# Altium integrated library s7cas_lib2023.intlib: 111 symbols (part 1 of 2)
Pins are listed as number, name and electrical type; pins without a type are passive.

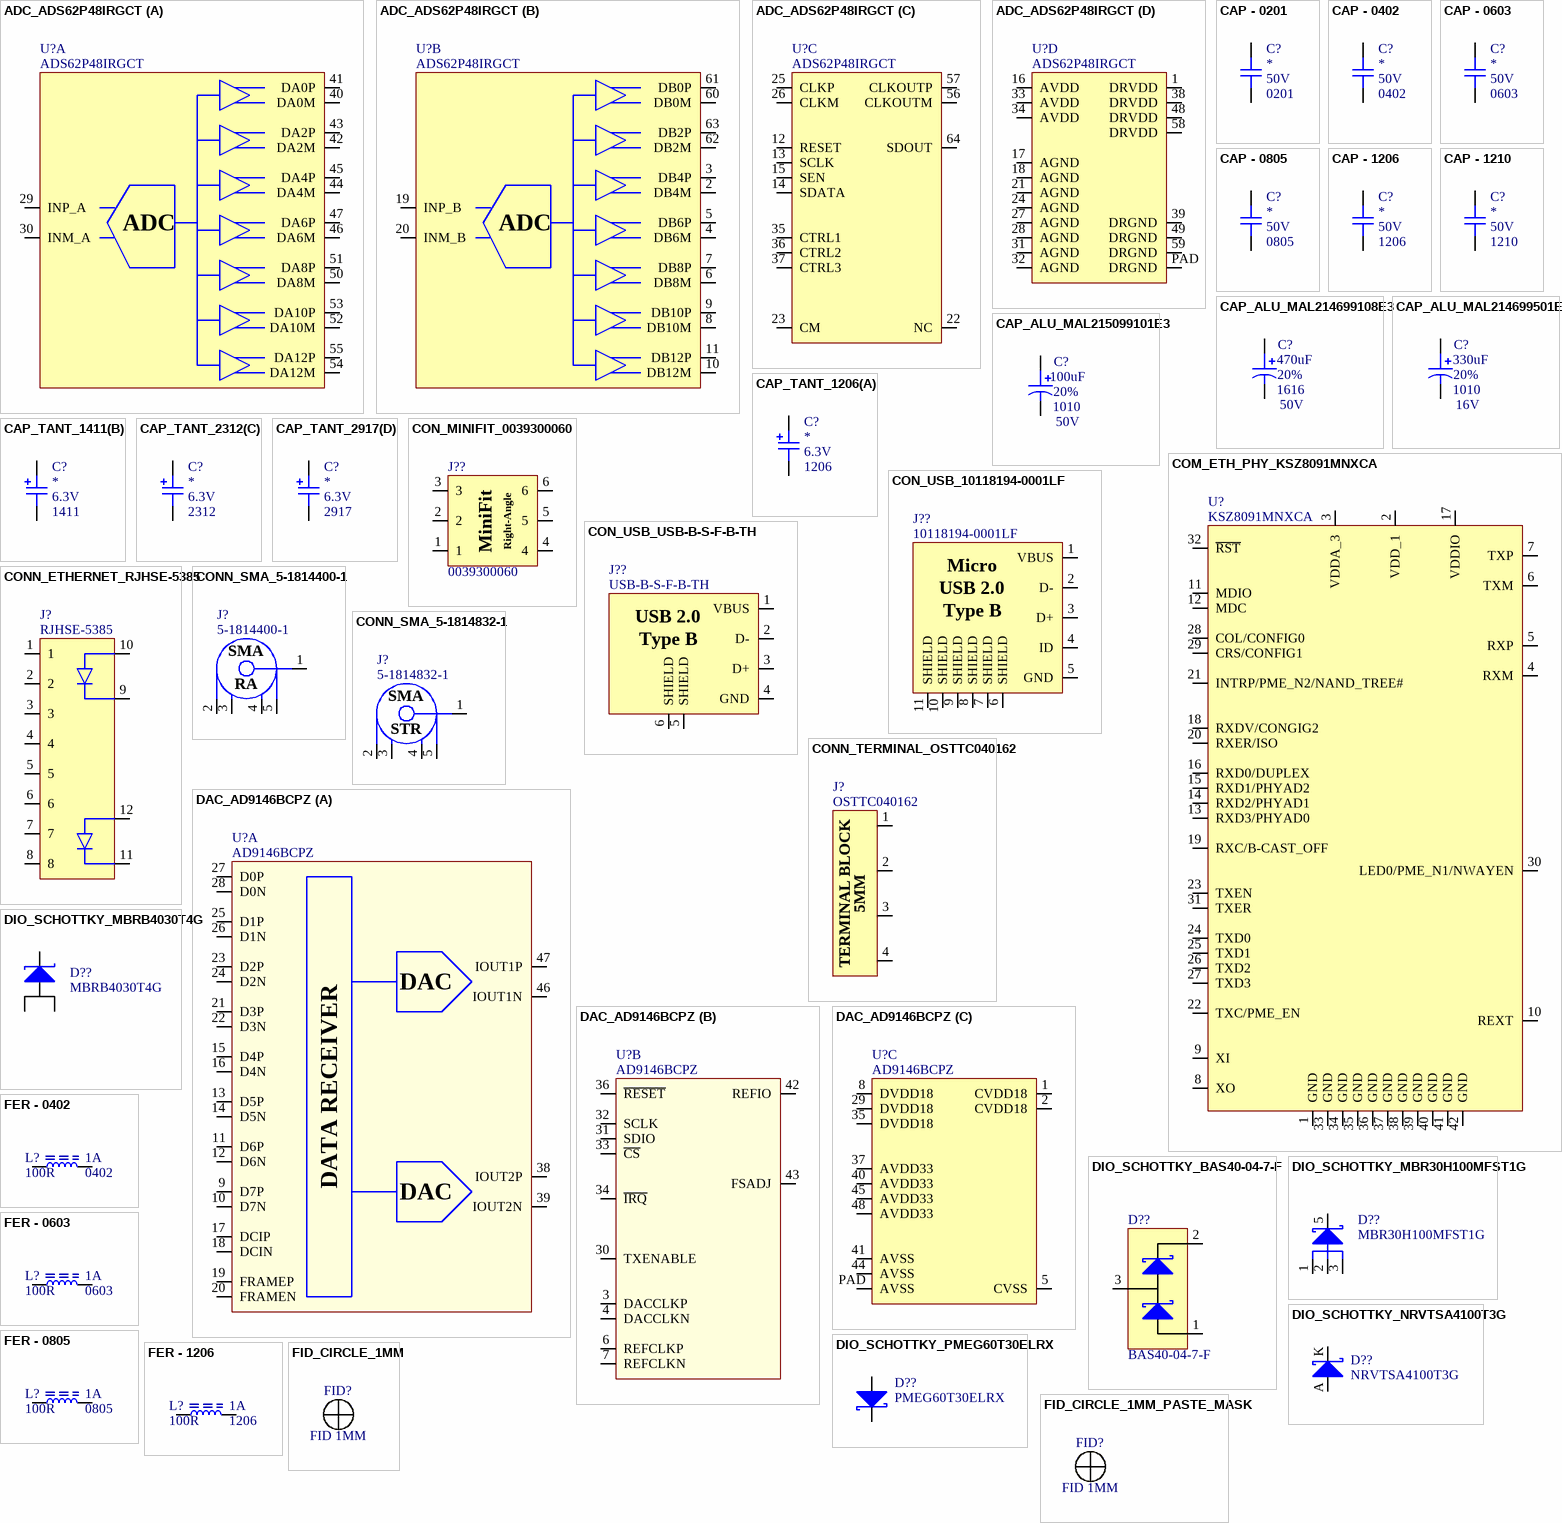
[diagram p0: symbols ADC_ADS62P48IRGCT to FID_CIRCLE_1MM_PASTE_MASK]

## ADC_ADS62P48IRGCT
designator U?, comment ADS62P48IRGCT
ADC - 14 BIT 210MSPS SUAL - VQFN-64; Voltage: 3.15 V ~ 3.6 V / 1.7 V ~ 1.9 V; Mfg: Texas Instruments; Precision: 14 Bit; Current: *; Power: *; Mfg Part Number: ADS62P48IRGCT; HelpURL: http://www.ti.com/lit/ds/symlink/ads62p48.pdf; CreatedBy: Jonathan Bouchard; Temperature: -40°C ~ 85°C; Value: *; Package: VQFN-64; Supplier 1: Digikey; Supplier Part Number 1: 296-24611-1-ND
footprint ADC_ADS62P48IRGCT (QFN, 64-Leads, Body 9,00x9,00mm, Pitch 0,50mm, Thermal Pad 7,40x7,40mm, IPC Medium Density)
part A pins: 29 INP_A, 30 INM_A, 40 DA0M, 41 DA0P, 42 DA2M, 43 DA2P, 44 DA4M, 45 DA4P, 46 DA6M, 47 DA6P, 50 DA8M, 51 DA8P, 52 DA10M, 53 DA10P, 54 DA12M, 55 DA12P
part B pins: 2 DB4M, 3 DB4P, 4 DB6M, 5 DB6P, 6 DB8M, 7 DB8P, 8 DB10M, 9 DB10P, 10 DB12M, 11 DB12P, 19 INP_B, 20 INM_B, 60 DB0M, 61 DB0P, 62 DB2M, 63 DB2P
part C pins: 12 RESET, 13 SCLK, 14 SDATA, 15 SEN, 22 NC, 23 CM, 25 CLKP, 26 CLKM, 35 CTRL1, 36 CTRL2, 37 CTRL3, 56 CLKOUTM, 57 CLKOUTP, 64 SDOUT
part D pins: 1 DRVDD, 16 AVDD, 17 AGND, 18 AGND, 21 AGND, 24 AGND, 27 AGND, 28 AGND, 31 AGND, 32 AGND, 33 AVDD, 34 AVDD, 38 DRVDD, 39 DRGND, 48 DRVDD, 49 DRGND, 58 DRVDD, 59 DRGND, PAD DRGND
part A text: ADC
part B text: ADC

## CAP - 0201
designator C?  Voltage: 50V  Package: 0201  (hidden comment: CAP - 0201)
Precision: 10%; Current: *; CreatedBy: Jonathan Bouchard; Power: *; Value: *
footprint CAP_0201
pins: 1, 2

## CAP - 0402
designator C?  Voltage: 50V  Package: 0402  (hidden comment: CAP - 0402)
Precision: 10%; Current: *; CreatedBy: Jonathan Bouchard; Power: *; Value: *
footprint CAP_0402
pins: 1, 2

## CAP - 0603
designator C?  Voltage: 50V  Package: 0603  (hidden comment: CAP - 0603)
Precision: 10%; Current: *; CreatedBy: Jonathan Bouchard; Power: *; Value: *
footprint CAP_0603
pins: 1, 2

## CAP - 0805
designator C?  Voltage: 50V  Package: 0805  (hidden comment: CAP - 0805)
Precision: 10%; Current: *; CreatedBy: Jonathan Bouchard; Power: *; Value: *
footprint CAP_0805
pins: 1, 2

## CAP - 1206
designator C?  Voltage: 50V  Package: 1206  (hidden comment: CAP - 1206)
Precision: 10%; Current: *; CreatedBy: Jonathan Bouchard; Power: *; Value: *
footprint CAP_1206
pins: 1, 2

## CAP - 1210
designator C?  Voltage: 50V  Package: 1210  (hidden comment: CAP - 1210)
Precision: 10%; Current: *; CreatedBy: Jonathan Bouchard; Power: *; Value: *
footprint CAP_1210
pins: 1, 2

## CAP_ALU_MAL214699108E3
designator C?, comment value 470uF  Voltage: 50V  Package: 1616  Precision: 20%  (hidden comment: MAL214699108E3)
CAP - ALU 470uF 20% 50V - 1616; Current: 1.3A; Mfg: Vishay Dale; Mfg Part Number: MAL214699108E3; HelpURL: http://www.vishay.com/docs/28403/146cti.pdf; CreatedBy: Jonathan Bouchard; Temperature: -55°C to 125°C; Power: *; Supplier 1: Digikey; Supplier Part Number 1: 4442PHCT-ND
footprint CAP_ALU_1616_vishay
pins: 1, 2

## CAP_ALU_MAL214699501E3
designator C?, comment value 330uF  Voltage: 16V  Package: 1010  Precision: 20%  (hidden comment: MAL214699501E3)
CAP - ALU 330uF 20% 16V - 1010; Current: 750mA; Mfg: Vishay Dale; Mfg Part Number: MAL214699501E3; HelpURL: http://www.vishay.com/docs/28403/146cti.pdf; CreatedBy: Jonathan Bouchard; Temperature: -55°C to 125°C; Power: *; Supplier 1: Digikey; Supplier Part Number 1: 4405PHCT-ND
footprint CAP_ALU_1010_vishay
pins: 1, 2

## CAP_ALU_MAL215099101E3
designator C?, comment value 100uF  Voltage: 50V  Package: 1010  Precision: 20%  (hidden comment: MAL215099101E3)
CAP - ALU 100uF 20% 50V - 1010; Current: 490mA; Mfg: Vishay Dale; Mfg Part Number: MAL215099101E3; HelpURL: http://www.vishay.com/docs/28395/150crz.pdf; CreatedBy: Jonathan Bouchard; Temperature: -55°C to 125°C; Power: *; Supplier 1: Digikey; Supplier Part Number 1: 4399PHDKR-ND
footprint CAP_ALU_1010_vishay
pins: 1, 2

## CAP_TANT_1206(A)
designator C?, comment Voltage: 6.3V  Package: 1206  (hidden comment: CAP - TANTALUM - CASE A)
CAP - TANTALUM - 1206; Precision: 10%; Current: *; CreatedBy: Jonathan Bouchard; Power: *; Value: *
footprint CAP_TAN_1206(A)
pins: 1, 2

## CAP_TANT_1411(B)
designator C?, comment Voltage: 6.3V  Package: 1411  (hidden comment: CAP - TANTALUM - CASE B)
CAP - TANTALUM - 1411; Precision: 10%; Current: *; CreatedBy: Jonathan Bouchard; Power: *; Value: *
footprint CAP_TAN_1411(B)
pins: 1, 2

## CAP_TANT_2312(C)
designator C?, comment Voltage: 6.3V  Package: 2312  (hidden comment: CAP - TANTALUM - CASE C)
CAP - TANTALUM - 2312; Precision: 10%; Current: *; CreatedBy: Jonathan Bouchard; Power: *; Value: *
footprint CAP_TAN_2312(C)
pins: 1, 2

## CAP_TANT_2917(D)
designator C?, comment Voltage: 6.3V  Package: 2917  (hidden comment: CAP - TANTALUM - CASE D)
CAP - TANTALUM - 2917; Precision: 10%; Current: *; CreatedBy: Jonathan Bouchard; Power: *; Value: *
footprint CAP_TAN_2917(D)
pins: 1, 2

## COM_ETH_PHY_KSZ8091MNXCA
designator U?, comment KSZ8091MNXCA
COM - ETHERNET PHY 10/100 - QFN-32; Voltage: 1.8V, 2.5V, 3.3V; Mfg: Micrel; Current: *; Power: *; Mfg Part Number: KSZ8091MNXCA; HelpURL: http://ww1.microchip.com/downloads/en/DeviceDoc/00002275A.pdf; CreatedBy: Jonathan Bouchard; Temperature: 0°C ~ 70°C; Value: *; Precision: *; Package: QFN-32; Supplier 1: Digikey; Supplier Part Number 1: 576-4356-ND
footprint COM_ETH_PHY_KSZ8091MNXCA
pins: 1 GND, 2 VDD_1 (power), 3 VDDA_3 (power), 4 RXM, 5 RXP, 6 TXM, 7 TXP, 8 XO, 9 XI, 10 REXT, 11 MDIO, 12 MDC, 13 RXD3/PHYAD0, 14 RXD2/PHYAD1, 15 RXD1/PHYAD2, 16 RXD0/DUPLEX, 17 VDDIO (power), 18 RXDV/CONGIG2, 19 RXC/B-CAST_OFF, 20 RXER/ISO, 21 INTRP/PME_N2/NAND_TREE#, 22 TXC/PME_EN, 23 TXEN, 24 TXD0, 25 TXD1, 26 TXD2, 27 TXD3, 28 COL/CONFIG0, 29 CRS/CONFIG1, 30 LED0/PME_N1/NWAYEN, 31 TXER, 32 ~{RST}, 33 GND, 34 GND, 35 GND, 36 GND, 37 GND, 38 GND, 39 GND, 40 GND, 41 GND, 42 GND

## CON_MINIFIT_0039300060
designator J??, comment 0039300060
CON - Mini-Fit Through Hole, Right Angle 6 position; Manufacturer #1: Molex; Current Rating: 8A; GRAMS Lib Spec: 2.8; Magnetic Material: Unknown; Polarized: Yes; Voltage Rating: 600V; Assembly Type: TH; CreatedBy/Date: Joel Lemay 2018-06-21; HelpURL: https://www.molex.com/pdm_docs/sd/039300060_sd.pdf; Manufacturer #2: *; Package: TH; Part Number #1: 0039300060; Part Number #2: *; Power Max: *; Supplier 1: Digi-Key; Supplier Part Number 1: WM21353-ND; Temperature: - 40°C to + 80°C; Tolerance: *; Value: *; VerifiedBy: Caroline Paulin - 10 sept 2018; Cryo: UNKNOWN
footprint CON_MINIFIT_0039300060
pins: 1, 2, 3, 4, 5, 6
text: MiniFit; Right-Angle

## CON_USB_10118194-0001LF
designator J??, comment 10118194-0001LF
CON - USB MICRO B RECPT SMT R/A - 4PIN; Manufacturer #1: Amphenol FCI; Value: USB - Micro B; Voltage Rating: 100VAC; Current Rating: 1.8A; GRAMS Lib Spec: 2.8; Magnetic Material: YES; Cryo: UNKNOWN; Tolerance: *; Power Max: *; HelpURL: https://cdn.amphenol-icc.com/media/wysiwyg/files/drawing/10118194.pdf; CreatedBy/Date: Arnaud Samson - 09/07/18; VerifiedBy: Jonathan Bouchard 2018-07-12; Temperature: -30°C ~ 80°C; Package: 5-SMD; Manufacturer #2: *; Note: *; Assembly Type: SMD; Part Number #2: *; Part Number #1: 10118194-0001LF; Polarized: YES; Supplier 1: Digi-Key; Supplier Part Number 1: 609-4618-1-ND
footprint CON_USB_10118194-0001LF (CONN USB MICRO B RECPT SMT R/A)
pins: 1 VBUS, 2 D-, 3 D+, 4 ID, 5 GND, 6 SHIELD, 7 SHIELD, 8 SHIELD, 9 SHIELD, 10 SHIELD, 11 SHIELD
text: Micro; USB 2.0; Type B

## CON_USB_USB-B-S-F-B-TH
designator J??, comment USB-B-S-F-B-TH
CON - USB B RECPT TH R/A - 4-TH; Manufacturer #1: Samtec Inc.; Value: USB B; Voltage Rating: 30VAC; GRAMS Lib Spec: 2.8c; Magnetic Material: UNKNOWN; Polarized: YES; Tolerance: *; Current Rating: *; Power Max: *; HelpURL: http://suddendocs.samtec.com/catalog_english/usb_b.pdf; CreatedBy/Date: Jonathan Bouchard 2020-03-24; VerifiedBy: C.Paulin - 22/04/2020; Temperature: -50°C ~ 85°C; Package: 4-TH; Manufacturer #2: *; Note: *; Assembly Type: TH; Part Number #2: *; Part Number #1: USB-B-S-F-B-TH; Supplier 1: Digi-Key; Supplier Part Number 1: SAM10867-ND; Cryo: UNKNOWN
footprint CON_USB_USB-B-S-F-B-TH (Samtec USB B)
pins: 1 VBUS, 2 D-, 3 D+, 4 GND, 5 SHIELD, 6 SHIELD
text: USB 2.0; Type B

## CONN_ETHERNET_RJHSE-5385
designator J?, comment RJHSE-5385
CONN - MOD JACK RJ45 R/A ETHERNET - TH; Mfg: Amphenol; Voltage: *; Current: *; Power: *; Mfg Part Number: RJHSE-5385; HelpURL: https://www.amphenolcanada.com/ProductSearch/drawings/AC/RJHSE538X.pdf; CreatedBy: Jonathan Bouchard; Temperature: -55°C ~ 85°C; Value: *; Precision: *; Package: TH-12; Supplier 1: Digikey; Supplier Part Number 1: RJHSE-5385-ND
footprint CONN_ETHERNET_RJHSE-5385 (Ethernet connector with LEDs)
pins: 1, 2, 3, 4, 5, 6, 7, 8, 9 LED1_K, 10 LED1_A, 11 LED2_K, 12 LED2_A

## CONN_SMA_5-1814400-1
designator J?, comment 5-1814400-1
CONN -  SMA JACK R/A 50 OHM - TH; Mfg: TE Connectivity AMP Connectors; Voltage: *; Current: *; Power: *; Mfg Part Number: 5-1814400-1; HelpURL: http://www.te.com/commerce/DocumentDelivery/DDEController?Action=srchrtrv&DocNm=1814400&DocType=Customer+Drawing&DocLang=English; CreatedBy: Jonathan Bouchard; Temperature: -55°C ~ 85°C; Value: *; Precision: *; Package: TH-5; Supplier 1: Digikey; Supplier Part Number 1: A97593-ND
footprint CONN_SMA_5-1814400-1 (SMA Right Angle Jack, 14.8x6.35x9.6mm)
pins: 1, 2, 3, 4, 5
text: SMA; RA

## CONN_SMA_5-1814832-1
designator J?, comment 5-1814832-1
CONN -  SMA JACK STR 50 OHM - TH; Mfg: TE Connectivity AMP Connectors; Voltage: *; Current: *; Power: *; Mfg Part Number: 5-1814832-1; HelpURL: http://www.te.com/commerce/DocumentDelivery/DDEController?Action=srchrtrv&DocNm=1814832&DocType=Customer+Drawing&DocLang=English; CreatedBy: Jonathan Bouchard; Temperature: -65°C ~ 165°C; Value: *; Precision: *; Package: TH-5; Supplier 1: Digikey; Supplier Part Number 1: A97594-ND
footprint CONN_SMA_5-1814832-1 (SMA Straight Jack, 6.35x6.35x9.5mm)
pins: 1, 2, 3, 4, 5
text: SMA; STR

## CONN_TERMINAL_OSTTC040162
designator J?, comment OSTTC040162
CONN -  TERMINAL BLOCK 4POS 5MM - TH; Mfg: On Shore Technology Inc.; Voltage: *; Current: *; Power: *; Mfg Part Number: OSTTC040162; HelpURL: http://www.on-shore.com/wp-content/uploads/2015/09/osttcxx0162.pdf; CreatedBy: Jonathan Bouchard; Temperature: -30°C ~ 105°C; Value: *; Precision: *; Package: TH-4; Supplier 1: Digikey; Supplier Part Number 1: ED2602-ND
footprint CONN_TERMINAL_OSTTA040161 (4-pins terminal block)
pins: 1, 2, 3, 4
text: TERMINAL BLOCK; 5MM

## DAC_AD9146BCPZ
designator U?, comment AD9146BCPZ
DAC - 16BIT SRL HIGH SPEED - QFN-48; Voltage: 3.13 V ~ 3.47 V / 1.71 V ~ 1.89 V; Mfg: Analog Devices Inc.; Current: *; Power: *; Mfg Part Number: AD9146BCPZ; HelpURL: http://www.analog.com/media/en/technical-documentation/data-sheets/AD9146.PDF; CreatedBy: Jonathan Bouchard; Temperature: -40°C ~ 85°C; Value: *; Precision: 16 Bit; Package: QFN-48; Supplier 1: Digikey; Supplier Part Number 1: AD9146BCPZ-ND
footprint DAC_AD9146BCPZ (QFN, 48-Leads, Body 7x7mm, Pitch 0.5mm, Thermal Pad 5.6x5.6mm, IPC Medium Density)
part A pins: 9 D7P "Data Bit 7 (MSB), Positive.", 10 D7N "Data Bit 7 (MSB), Negative.", 11 D6P "Data Bit 6, Positive.", 12 D6N "Data Bit 6, Negative.", 13 D5P "Data Bit 5, Positive.", 14 D5N "Data Bit 5, Negative.", 15 D4P "Data Bit 4, Positive.", 16 D4N "Data Bit 4, Negative.", 17 DCIP "Data Clock Input, Positive.", 18 DCIN "Data Clock Input, Negative.", 19 FRAMEP "Frame Input, Positive.", 20 FRAMEN "Frame Input, Negative.", 21 D3P "Data Bit 3, Positive.", 22 D3N "Data Bit 3, Negative.", 23 D2P "Data Bit 2, Positive.", 24 D2N "Data Bit 2, Negative.", 25 D1P "Data Bit 1, Positive.", 26 D1N "Data Bit 1, Negative.", 27 D0P "Data Bit 0 (LSB), Positive.", 28 D0N "Data Bit 0 (LSB), Negative.", 38 IOUT2P "Q DAC Positive Current Output.", 39 IOUT2N "Q DAC Negative Current Output.", 46 IOUT1N "I DAC Negative Current Output.", 47 IOUT1P "I DAC Positive Current Output."
part B pins: 3 DACCLKP "DAC Clock Input, Positive.", 4 DACCLKN "DAC Clock Input, Negative.", 6 REFCLKP "PLL Reference Clock Input, Positive. This pin has a secondary function as a synchronization input.", 7 REFCLKN "PLL Reference Clock Input, Negative. This pin has a secondary function as a synchronization input.", 30 TXENABLE "Active High Transmit Path Enable (CMOS). A low level on this pin clamps the DAC outputs to midscale.", 31 SDIO "Serial Port Data Input/Output (CMOS).", 32 SCLK "Serial Port Clock Input (CMOS).", 33 ~{CS} "Serial Port Chip Select, Active Low (CMOS).", 34 ~{IRQ} "Interrupt Request. Open-drain, active low output. Pull this pin high external to the device.", 36 ~{RESET} "Reset, Active Low (CMOS).", 42 REFIO "1.2 V Band Gap Voltage Reference Output. Should be decoupled to AVSS with a 0.1 uF capacitor.", 43 FSADJ "Full-Scale Current Output Adjust. Place a 10 kO resistor from this pin to AVSS."
part C pins: 1 CVDD18 "1.8 V Clock Supply. Supplies clock receivers, clock distribution, and PLL circuitry.", 2 CVDD18 "1.8 V Clock Supply. Supplies clock receivers, clock distribution, and PLL circuitry.", 5 CVSS "Clock Supply Common.", 8 DVDD18 "1.8 V Digital Supply. Supplies power to digital core and digital data ports.", 29 DVDD18 "1.8 V Digital Supply. Supplies power to digital core and digital data ports.", 35 DVDD18 "1.8 V Digital Supply. Supplies power to digital core and digital data ports.", 37 AVDD33 "3.3 V Analog Supply.", 40 AVDD33 "3.3 V Analog Supply.", 41 AVSS "Analog Supply Common.", 44 AVSS "Analog Supply Common.", 45 AVDD33 "3.3 V Analog Supply.", 48 AVDD33 "3.3 V Analog Supply.", PAD AVSS "The exposed pad (EPAD) must be soldered to the ground plane (AVSS). The EPAD provides an electrical,thermal, and mechanical connection to the board."
part A text: DAC; DATA RECEIVER

## DIO_SCHOTTKY_BAS40-04-7-F
designator D??, comment BAS40-04-7-F
DIO - Schottky Array 1 Pair Series Connection - SOT-23-3; Manufacturer #1: Diodes Incorporated; Voltage Rating: 40V dc reverse; Current Rating: 200mA; GRAMS Lib Spec: 2.8; Magnetic Material: Unknown; Polarized: Yes; Value: -; Tolerance: -; Power Max: -; HelpURL: https://www.diodes.com/assets/Datasheets/ds11006.pdf; CreatedBy/Date: Danae D-F 15 août 2019; VerifiedBy: C.Paulin - 16/08/2019; Temperature: -55°C ~ 125°C; Package: SOT-23-3; Manufacturer #2: -; Assembly Type: SMD; Part Number #2: -; Part Number #1: BAS40-04-7-F; Supplier 1: Digi-Key; Supplier Part Number 1: BAS40-04FDITR-ND; Cryo: UNKNOWN
footprint DIO_SCHOTTKY_BAS40-04-7-F
pins: 1 A, 2 K, 3 AK

## DIO_SCHOTTKY_MBR30H100MFST1G
designator D??, comment MBR30H100MFST1G
DIO - SCHOTTKY 100V 30A - 5DFN; Manufacturer #1: ON Semiconductor; GRAMS Lib Spec: 2.8; Magnetic Material: Unknown; Polarized: Yes; Assembly Type: SMD; CreatedBy/Date: Joel Lemay 2019-10-17; Current Rating: 30A; HelpURL: http://www.onsemi.com/pub/Collateral/MBR30H100MFS-D.PDF; Manufacturer #2: *; Package: 5DFN; Part Number #1: MBR30H100MFST1G; Part Number #2: *; Power Max: *; Supplier 1: Digi-Key; Supplier Part Number 1: MBR30H100MFST1GOSCT-ND; Temperature: -55°C ~ 175°C; Tolerance: *; VerifiedBy: C.Paulin - 2019-11-18; Voltage Rating: 100V; Cryo: UNKNOWN
footprint DIO_SCHOTTKY_MBR30H100MFST1G
pins: 1 A, 2 A, 3 A, 4 NC hidden, 5 K

## DIO_SCHOTTKY_MBRB4030T4G
designator D??, comment MBRB4030T4G
DIO - 30V MAX 40 A - TO-263-3; Manufacturer #1: ON Semiconductor; Value: Vf = 550mV @ 40A; Current Rating: 40A; GRAMS Lib Spec: 2.8; Magnetic Material: NO; Polarized: Yes; Cryo: UNKNOWN; Tolerance: *; Voltage Rating: 30V; Power Max: *; HelpURL: http://www.onsemi.com/pub/Collateral/MBRB4030-D.PDF; CreatedBy/Date: Arnaud Samson - 06/07/18; VerifiedBy: Jonathan Bouchard 2018-07-12; Temperature: -65°C ~ 175°C; Package: D2PAK; Manufacturer #2: *; Note: *; Assembly Type: SMD; Part Number #2: *; Part Number #1: MBRB4030T4G; Supplier 1: Digi-Key; Supplier Part Number 1: MBRB4030T4GOSCT-ND
footprint DIO_SCHOTTKY_MBRB4030T4G (TO-263-3, D²Pak (2 Leads + Tab), TO-263AB)
pins: 1 A, 3, 4

## DIO_SCHOTTKY_NRVTSA4100T3G
designator D??, comment NRVTSA4100T3G
DIO -  SCHOTTKY 100V 4A - DO-214AC; Manufacturer #1: ON Semiconductor; Value: Vf = 660mV @ 4A; GRAMS Lib Spec: 2.8; Magnetic Material: UNKNOWN; Polarized: YES; Tolerance: *; Voltage Rating: 100V; Current Rating: 4A; Power Max: *; HelpURL: https://www.onsemi.com/pub/Collateral/NTSA4100-D.PDF; CreatedBy/Date: Jonathan Bouchard 2019-03-22; VerifiedBy: Nicolas V. (2019-05-01); Temperature: -55°C ~ 150°C; Package: DO-214AC; Manufacturer #2: *; Note: *; Assembly Type: SMD; Part Number #2: *; Part Number #1: NRVTSA4100T3G; Supplier 1: Digi-Key; Supplier Part Number 1: NRVTSA4100T3GOSCT-ND; Cryo: UNKNOWN
footprint DIO_SCHOTTKY_NRVTSA4100T3G (Molded Diode, 2-Leads, Body 4,31x2,61mm, IPC Medium Density)
pins: A, K

## DIO_SCHOTTKY_PMEG60T30ELRX
designator D??, comment PMEG60T30ELRX
DIO -  SCHOTTKY 60V 3A - SOD-123W; Manufacturer #1: Nexperia USA Inc.; GRAMS Lib Spec: 2.8c; Magnetic Material: UNKNOWN; Polarized: YES; Value: 620mV @ 3A; Assembly Type: SMD; CreatedBy/Date: Jonathan Bouchard 2020-03-23; Current Rating: 3A; HelpURL: https://assets.nexperia.com/documents/data-sheet/PMEG60T30ELR.pdf; Manufacturer #2: *; Note: *; Package: SOD-123W; Part Number #1: PMEG60T30ELRX; Part Number #2: *; Power Max: *; Supplier 1: Digi-Key; Supplier Part Number 1: 1727-7806-1-ND; Temperature: 175°C (Max); Tolerance: *; VerifiedBy: C.Paulin - 22/04/2020; Voltage Rating: 60V; Cryo: UNKNOWN
footprint DIO_SCHOTTKY_PMEG60T30ELRX
pins: A, K

## FER - 0402
designator L?  value 100R  Current: 1A  Package: 0402  (hidden comment: FER - 0402)
Voltage: *; CreatedBy: Jonathan Bouchard; Power: *; Precision: *
footprint FER_0402
pins: 1, 2

## FER - 0603
designator L?  value 100R  Current: 1A  Package: 0603  (hidden comment: FER - 0603)
Voltage: *; CreatedBy: Jonathan Bouchard; Power: *; Precision: *
footprint FER_0603
pins: 1, 2

## FER - 0805
designator L?  value 100R  Current: 1A  Package: 0805  (hidden comment: FER - 0805)
Voltage: *; CreatedBy: Jonathan Bouchard; Power: *; Precision: *
footprint FER_0805
pins: 1, 2

## FER - 1206
designator L?  value 100R  Current: 1A  Package: 1206  (hidden comment: FER - 1206)
Voltage: *; CreatedBy: Jonathan Bouchard; Power: *; Precision: *
footprint FER_1206
pins: 1, 2

## FID_CIRCLE_1MM
designator FID?, comment FID 1MM
FID - FIDUCIAL 1MM CIRCLE DOUBLE-SIDED - 1MM; GRAMS Lib Spec: 2.8; Magnetic Material: NO; Cryo: UNKNOWN; Value: *; Tolerance: *; Voltage Rating: *; Current Rating: *; Power Max: *; HelpURL: https://www.pcb-3d.com/wordpress/wp-content/uploads/ipc-sm-782a_amendment_1_and_2.pdf; CreatedBy/Date: Jonathan Bouchard 2018-07-23; VerifiedBy: Caroline Paulin - 25 juillet 2018; Temperature: *; Package: 1MM CIRCLE; Manufacturer #1: *; Manufacturer #2: *; Note: *; Assembly Type: NONE; Part Number #2: *; Part Number #1: *; Polarized: *; Supplier 1: *; Supplier Part Number 1: *
footprint FID_CIRCLE_1MM
pins: 1 hidden, 2 hidden

## FID_CIRCLE_1MM_PASTE_MASK
designator FID?, comment FID 1MM
FID - FIDUCIAL 1MM CIRCLE DOUBLE-SIDED - 1MM; GRAMS Lib Spec: 2.8; Magnetic Material: NO; Cryo: UNKNOWN; Value: *; Tolerance: *; Voltage Rating: *; Current Rating: *; Power Max: *; HelpURL: https://www.pcb-3d.com/wordpress/wp-content/uploads/ipc-sm-782a_amendment_1_and_2.pdf; CreatedBy/Date: Jonathan Bouchard 2018-07-23; VerifiedBy: Caroline Paulin - 25 juillet 2018; Temperature: *; Package: 1MM CIRCLE; Manufacturer #1: *; Manufacturer #2: *; Note: *; Assembly Type: NONE; Part Number #2: *; Part Number #1: *; Polarized: *; Supplier 1: *; Supplier Part Number 1: *
footprint FID_CIRCLE_1MM - PASTE_MASK
pins: 1 hidden, 2 hidden

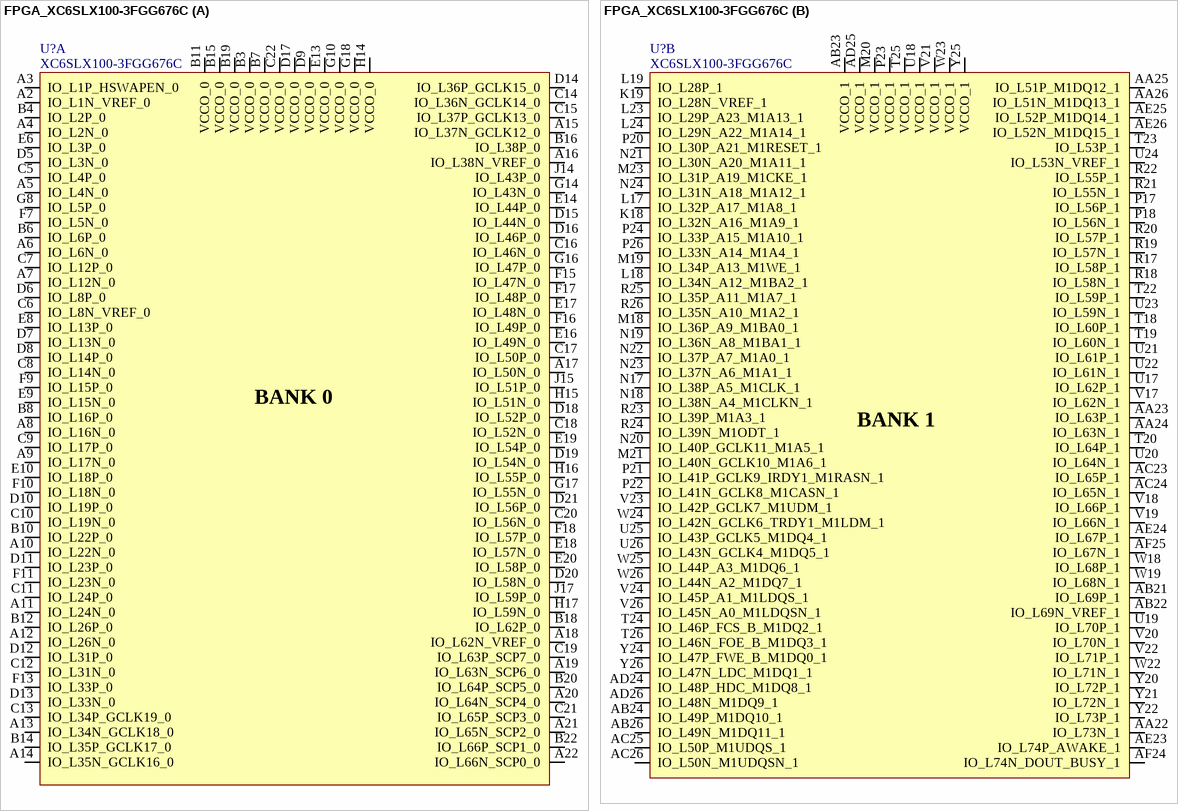
[diagram p1: symbol FPGA_XC6SLX100-3FGG676C]

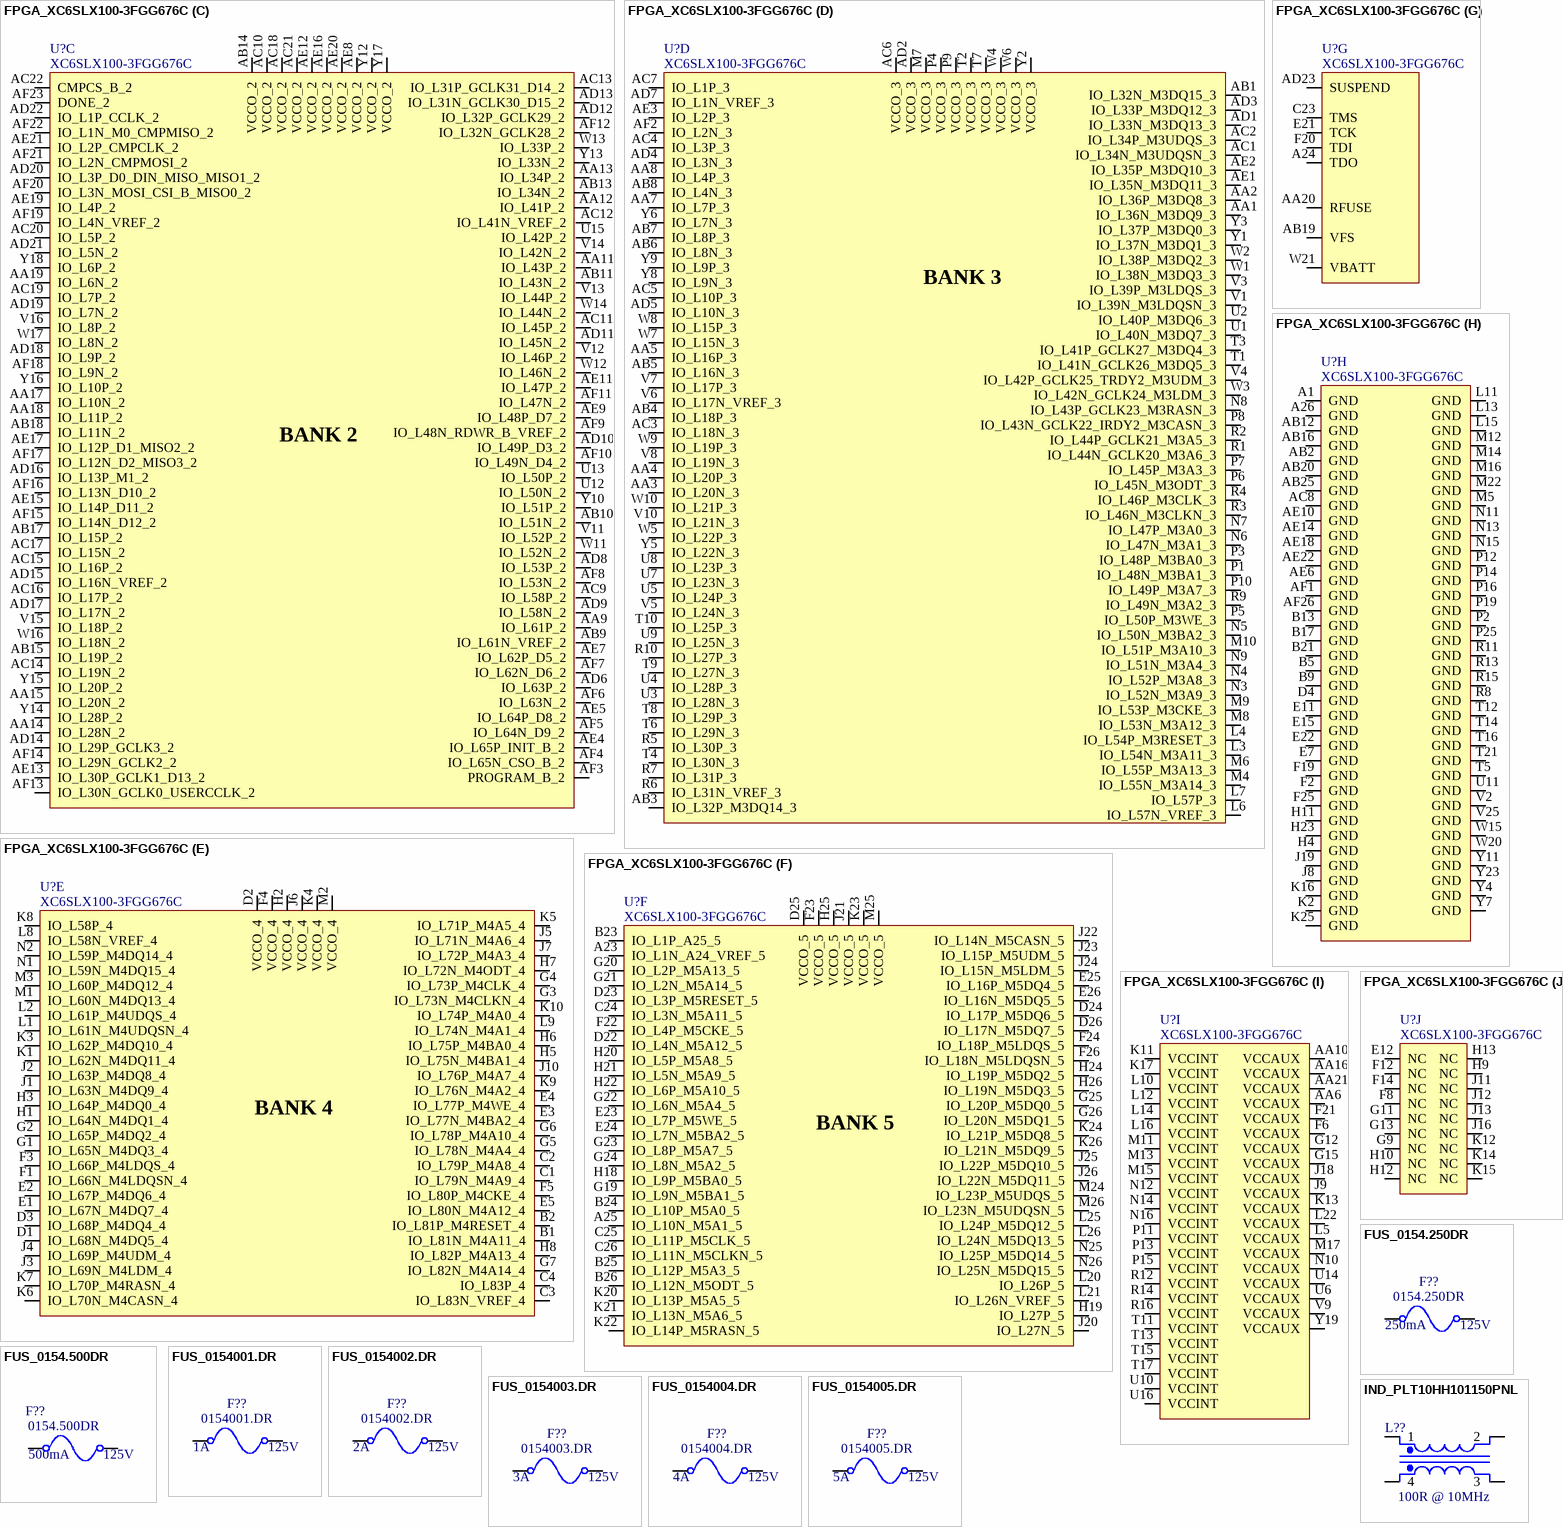
[diagram p2: symbols FPGA_XC6SLX100-3FGG676C to IND_PLT10HH101150PNL]

## FPGA_XC6SLX100-3FGG676C
designator U?, comment XC6SLX100-3FGG676C
FPGA - XILINX SPARTAN 6 480 I/O - BGA-676; Voltage: 1.14 V ~ 1.26 V; Current: *; Power: *; Mfg: Xilinx; Mfg Part Number: XC6SLX100-3FGG676C; HelpURL: https://www.xilinx.com/support/documentation/data_sheets/ds162.pdf; CreatedBy: Jonathan Bouchard; Temperature: 0°C ~ 85°C (TJ); Value: *; Precision: *; Package: BGA-676; Supplier 1: Digikey; Supplier Part Number 1: 122-1760-ND
footprint FPGA_XILINX_FGG676
part A pins: A2 IO_L1N_VREF_0, A3 IO_L1P_HSWAPEN_0, A4 IO_L2N_0, A5 IO_L4N_0, A6 IO_L6N_0, A7 IO_L12N_0, A8 IO_L16N_0, A9 IO_L17N_0, A10 IO_L22N_0, A11 IO_L24N_0, A12 IO_L26N_0, A13 IO_L34N_GCLK18_0, A14 IO_L35N_GCLK16_0, A15 IO_L37N_GCLK12_0, A16 IO_L38N_VREF_0, A17 IO_L50N_0, A18 IO_L62N_VREF_0, A19 IO_L63N_SCP6_0, A20 IO_L64N_SCP4_0, A21 IO_L65N_SCP2_0, A22 IO_L66N_SCP0_0, B3 VCCO_0, B4 IO_L2P_0, B6 IO_L6P_0, B7 VCCO_0, B8 IO_L16P_0, B10 IO_L22P_0, B11 VCCO_0, B12 IO_L26P_0, B14 IO_L35P_GCLK17_0, B15 VCCO_0, B16 IO_L38P_0, B18 IO_L62P_0, B19 VCCO_0, B20 IO_L64P_SCP5_0, B22 IO_L66P_SCP1_0, C5 IO_L4P_0, C6 IO_L8N_VREF_0, C7 IO_L12P_0, C8 IO_L14N_0, C9 IO_L17P_0, C10 IO_L19N_0, C11 IO_L24P_0, C12 IO_L31N_0, C13 IO_L34P_GCLK19_0, C14 IO_L36N_GCLK14_0, C15 IO_L37P_GCLK13_0, C16 IO_L46N_0, C17 IO_L50P_0, C18 IO_L52N_0, C19 IO_L63P_SCP7_0, C20 IO_L56N_0, C21 IO_L65P_SCP3_0, C22 VCCO_0, D5 IO_L3N_0, D6 IO_L8P_0, D7 IO_L13N_0, D8 IO_L14P_0, D9 VCCO_0, D10 IO_L19P_0, D11 IO_L23P_0, D12 IO_L31P_0, D13 IO_L33N_0, D14 IO_L36P_GCLK15_0, D15 IO_L44N_0, D16 IO_L46P_0, D17 VCCO_0, D18 IO_L52P_0, D19 IO_L54N_0, D20 IO_L58N_0, D21 IO_L56P_0, E6 IO_L3P_0, E8 IO_L13P_0, E9 IO_L15N_0, E10 IO_L18P_0, E13 VCCO_0, E14 IO_L44P_0, E16 IO_L49N_0, E17 IO_L48N_0, E18 IO_L57N_0, E19 IO_L54P_0, E20 IO_L58P_0, F7 IO_L5N_0, F9 IO_L15P_0, F10 IO_L18N_0, F11 IO_L23N_0, F13 IO_L33P_0, F15 IO_L47N_0, F16 IO_L49P_0, F17 IO_L48P_0, F18 IO_L57P_0, G8 IO_L5P_0, G10 VCCO_0, G14 IO_L43N_0, G16 IO_L47P_0, G17 IO_L55N_0, G18 VCCO_0, H14 VCCO_0, H15 IO_L51N_0, H16 IO_L55P_0, H17 IO_L59N_0, J14 IO_L43P_0, J15 IO_L51P_0, J17 IO_L59P_0
part B pins: AA22 IO_L73N_1, AA23 IO_L63P_1, AA24 IO_L63N_1, AA25 IO_L51P_M1DQ12_1, AA26 IO_L51N_M1DQ13_1, AB21 IO_L69P_1, AB22 IO_L69N_VREF_1, AB23 VCCO_1, AB24 IO_L49P_M1DQ10_1, AB26 IO_L49N_M1DQ11_1, AC23 IO_L65P_1, AC24 IO_L65N_1, AC25 IO_L50P_M1UDQS_1, AC26 IO_L50N_M1UDQSN_1, AD24 IO_L48P_HDC_M1DQ8_1, AD25 VCCO_1, AD26 IO_L48N_M1DQ9_1, AE23 IO_L74P_AWAKE_1, AE24 IO_L67P_1, AE25 IO_L52P_M1DQ14_1, AE26 IO_L52N_M1DQ15_1, AF24 IO_L74N_DOUT_BUSY_1, AF25 IO_L67N_1, K18 IO_L32N_A16_M1A9_1, K19 IO_L28N_VREF_1, L17 IO_L32P_A17_M1A8_1, L18 IO_L34N_A12_M1BA2_1, L19 IO_L28P_1, L23 IO_L29P_A23_M1A13_1, L24 IO_L29N_A22_M1A14_1, M18 IO_L36P_A9_M1BA0_1, M19 IO_L34P_A13_M1WE_1, M20 VCCO_1, M21 IO_L40N_GCLK10_M1A6_1, M23 IO_L31P_A19_M1CKE_1, N17 IO_L38P_A5_M1CLK_1, N18 IO_L38N_A4_M1CLKN_1, N19 IO_L36N_A8_M1BA1_1, N20 IO_L40P_GCLK11_M1A5_1, N21 IO_L30N_A20_M1A11_1, N22 IO_L37P_A7_M1A0_1, N23 IO_L37N_A6_M1A1_1, N24 IO_L31N_A18_M1A12_1, P17 IO_L56P_1, P18 IO_L56N_1, P20 IO_L30P_A21_M1RESET_1, P21 IO_L41P_GCLK9_IRDY1_M1RASN_1, P22 IO_L41N_GCLK8_M1CASN_1, P23 VCCO_1, P24 IO_L33P_A15_M1A10_1, P26 IO_L33N_A14_M1A4_1, R17 IO_L58P_1, R18 IO_L58N_1, R19 IO_L57N_1, R20 IO_L57P_1, R21 IO_L55N_1, R22 IO_L55P_1, R23 IO_L39P_M1A3_1, R24 IO_L39N_M1ODT_1, R25 IO_L35P_A11_M1A7_1, R26 IO_L35N_A10_M1A2_1, T18 IO_L60P_1, T19 IO_L60N_1, T20 IO_L64P_1, T22 IO_L59P_1, T23 IO_L53P_1, T24 IO_L46P_FCS_B_M1DQ2_1, T25 VCCO_1, T26 IO_L46N_FOE_B_M1DQ3_1, U17 IO_L62P_1, U18 VCCO_1, U19 IO_L70P_1, U20 IO_L64N_1, U21 IO_L61P_1, U22 IO_L61N_1, U23 IO_L59N_1, U24 IO_L53N_VREF_1, U25 IO_L43P_GCLK5_M1DQ4_1, U26 IO_L43N_GCLK4_M1DQ5_1, V17 IO_L62N_1, V18 IO_L66P_1, V19 IO_L66N_1, V20 IO_L70N_1, V21 VCCO_1, V22 IO_L71P_1, V23 IO_L42P_GCLK7_M1UDM_1, V24 IO_L45P_A1_M1LDQS_1, V26 IO_L45N_A0_M1LDQSN_1, W18 IO_L68P_1, W19 IO_L68N_1, W22 IO_L71N_1, W23 VCCO_1, W24 IO_L42N_GCLK6_TRDY1_M1LDM_1, W25 IO_L44P_A3_M1DQ6_1, W26 IO_L44N_A2_M1DQ7_1, Y20 IO_L72P_1, Y21 IO_L72N_1, Y22 IO_L73P_1, Y24 IO_L47P_FWE_B_M1DQ0_1, Y25 VCCO_1, Y26 IO_L47N_LDC_M1DQ1_1
part C pins: AA9 IO_L61P_2, AA11 IO_L43P_2, AA12 IO_L41P_2, AA13 IO_L34P_2, AA14 IO_L28N_2, AA15 IO_L20N_2, AA17 IO_L10N_2, AA18 IO_L11P_2, AA19 IO_L6N_2, AB9 IO_L61N_VREF_2, AB10 IO_L51N_2, AB11 IO_L43N_2, AB13 IO_L34N_2, AB14 VCCO_2, AB15 IO_L19P_2, AB17 IO_L15P_2, AB18 IO_L11N_2, AC9 IO_L58P_2, AC10 VCCO_2, AC11 IO_L45P_2, AC12 IO_L41N_VREF_2, AC13 IO_L31P_GCLK31_D14_2, AC14 IO_L19N_2, AC15 IO_L16P_2, AC16 IO_L17P_2, AC17 IO_L15N_2, AC18 VCCO_2, AC19 IO_L7P_2, AC20 IO_L5P_2, AC21 VCCO_2, AC22 CMPCS_B_2, AD6 IO_L63P_2, AD8 IO_L53P_2, AD9 IO_L58N_2, AD10 IO_L49P_D3_2, AD11 IO_L45N_2, AD12 IO_L32P_GCLK29_2, AD13 IO_L31N_GCLK30_D15_2, AD14 IO_L29P_GCLK3_2, AD15 IO_L16N_VREF_2, AD16 IO_L13P_M1_2, AD17 IO_L17N_2, AD18 IO_L9P_2, AD19 IO_L7N_2, AD20 IO_L3P_D0_DIN_MISO_MISO1_2, AD21 IO_L5N_2, AD22 IO_L1P_CCLK_2, AE4 IO_L65P_INIT_B_2, AE5 IO_L64P_D8_2, AE7 IO_L62P_D5_2, AE8 VCCO_2, AE9 IO_L48P_D7_2, AE11 IO_L47P_2, AE12 VCCO_2, AE13 IO_L30P_GCLK1_D13_2, AE15 IO_L14P_D11_2, AE16 VCCO_2, AE17 IO_L12P_D1_MISO2_2, AE19 IO_L4P_2, AE20 VCCO_2, AE21 IO_L2P_CMPCLK_2, AF3 PROGRAM_B_2, AF4 IO_L65N_CSO_B_2, AF5 IO_L64N_D9_2, AF6 IO_L63N_2, AF7 IO_L62N_D6_2, AF8 IO_L53N_2, AF9 IO_L48N_RDWR_B_VREF_2, AF10 IO_L49N_D4_2, AF11 IO_L47N_2, AF12 IO_L32N_GCLK28_2, AF13 IO_L30N_GCLK0_USERCCLK_2, AF14 IO_L29N_GCLK2_2, AF15 IO_L14N_D12_2, AF16 IO_L13N_D10_2, AF17 IO_L12N_D2_MISO3_2, AF18 IO_L9N_2, AF19 IO_L4N_VREF_2, AF20 IO_L3N_MOSI_CSI_B_MISO0_2, AF21 IO_L2N_CMPMOSI_2, AF22 IO_L1N_M0_CMPMISO_2, AF23 DONE_2, U12 IO_L50N_2, U13 IO_L50P_2, U15 IO_L42P_2, V11 IO_L52P_2, V12 IO_L46P_2, V13 IO_L44P_2, V14 IO_L42N_2, V15 IO_L18P_2, V16 IO_L8P_2, W11 IO_L52N_2, W12 IO_L46N_2, W13 IO_L33P_2, W14 IO_L44N_2, W16 IO_L18N_2, W17 IO_L8N_2, Y10 IO_L51P_2, Y12 VCCO_2, Y13 IO_L33N_2, Y14 IO_L28P_2, Y15 IO_L20P_2, Y16 IO_L10P_2, Y17 VCCO_2, Y18 IO_L6P_2
part D pins: AA1 IO_L36N_M3DQ9_3, AA2 IO_L36P_M3DQ8_3, AA3 IO_L20N_3, AA4 IO_L20P_3, AA5 IO_L16P_3, AA7 IO_L7P_3, AA8 IO_L4P_3, AB1 IO_L32N_M3DQ15_3, AB3 IO_L32P_M3DQ14_3, AB4 IO_L18P_3, AB5 IO_L16N_3, AB6 IO_L8N_3, AB7 IO_L8P_3, AB8 IO_L4N_3, AC1 IO_L34N_M3UDQSN_3, AC2 IO_L34P_M3UDQS_3, AC3 IO_L18N_3, AC4 IO_L3P_3, AC5 IO_L10P_3, AC6 VCCO_3, AC7 IO_L1P_3, AD1 IO_L33N_M3DQ13_3, AD2 VCCO_3, AD3 IO_L33P_M3DQ12_3, AD4 IO_L3N_3, AD5 IO_L10N_3, AD7 IO_L1N_VREF_3, AE1 IO_L35N_M3DQ11_3, AE2 IO_L35P_M3DQ10_3, AE3 IO_L2P_3, AF2 IO_L2N_3, L3 IO_L54N_M3A11_3, L4 IO_L54P_M3RESET_3, L6 IO_L57N_VREF_3, L7 IO_L57P_3, M4 IO_L55N_M3A14_3, M6 IO_L55P_M3A13_3, M7 VCCO_3, M8 IO_L53N_M3A12_3, M9 IO_L53P_M3CKE_3, M10 IO_L51P_M3A10_3, N3 IO_L52N_M3A9_3, N4 IO_L52P_M3A8_3, N5 IO_L50N_M3BA2_3, N6 IO_L47N_M3A1_3, N7 IO_L47P_M3A0_3, N8 IO_L43P_GCLK23_M3RASN_3, N9 IO_L51N_M3A4_3, P1 IO_L48N_M3BA1_3, P3 IO_L48P_M3BA0_3, P4 VCCO_3, P5 IO_L50P_M3WE_3, P6 IO_L45N_M3ODT_3, P7 IO_L45P_M3A3_3, P8 IO_L43N_GCLK22_IRDY2_M3CASN_3, P9 VCCO_3, P10 IO_L49P_M3A7_3, R1 IO_L44N_GCLK20_M3A6_3, R2 IO_L44P_GCLK21_M3A5_3, R3 IO_L46N_M3CLKN_3, R4 IO_L46P_M3CLK_3, R5 IO_L30P_3, R6 IO_L31N_VREF_3, R7 IO_L31P_3, R9 IO_L49N_M3A2_3, R10 IO_L27P_3, T1 IO_L41N_GCLK26_M3DQ5_3, T2 VCCO_3, T3 IO_L41P_GCLK27_M3DQ4_3, T4 IO_L30N_3, T6 IO_L29N_3, T7 VCCO_3, T8 IO_L29P_3, T9 IO_L27N_3, T10 IO_L25P_3, U1 IO_L40N_M3DQ7_3, U2 IO_L40P_M3DQ6_3, U3 IO_L28N_3, U4 IO_L28P_3, U5 IO_L24P_3, U7 IO_L23N_3, U8 IO_L23P_3, U9 IO_L25N_3, V1 IO_L39N_M3LDQSN_3, V3 IO_L39P_M3LDQS_3, V4 IO_L42P_GCLK25_TRDY2_M3UDM_3, V5 IO_L24N_3, V6 IO_L17N_VREF_3, V7 IO_L17P_3, V8 IO_L19N_3, V10 IO_L21N_3, W1 IO_L38N_M3DQ3_3, W2 IO_L38P_M3DQ2_3, W3 IO_L42N_GCLK24_M3LDM_3, W4 VCCO_3, W5 IO_L22P_3, W6 VCCO_3, W7 IO_L15N_3, W8 IO_L15P_3, W9 IO_L19P_3, W10 IO_L21P_3, Y1 IO_L37N_M3DQ1_3, Y2 VCCO_3, Y3 IO_L37P_M3DQ0_3, Y5 IO_L22N_3, Y6 IO_L7N_3, Y8 IO_L9N_3, Y9 IO_L9P_3
part E pins: B1 IO_L81N_M4A11_4, B2 IO_L81P_M4RESET_4, C1 IO_L79N_M4A9_4, C2 IO_L79P_M4A8_4, C3 IO_L83N_VREF_4, C4 IO_L83P_4, D1 IO_L68N_M4DQ5_4, D2 VCCO_4, D3 IO_L68P_M4DQ4_4, E1 IO_L67N_M4DQ7_4, E2 IO_L67P_M4DQ6_4, E3 IO_L77N_M4BA2_4, E4 IO_L77P_M4WE_4, E5 IO_L80N_M4A12_4, F1 IO_L66N_M4LDQSN_4, F3 IO_L66P_M4LDQS_4, F4 VCCO_4, F5 IO_L80P_M4CKE_4, G1 IO_L65N_M4DQ3_4, G2 IO_L65P_M4DQ2_4, G3 IO_L73N_M4CLKN_4, G4 IO_L73P_M4CLK_4, G5 IO_L78N_M4A4_4, G6 IO_L78P_M4A10_4, G7 IO_L82N_M4A14_4, H1 IO_L64N_M4DQ1_4, H2 VCCO_4, H3 IO_L64P_M4DQ0_4, H5 IO_L75N_M4BA1_4, H6 IO_L75P_M4BA0_4, H7 IO_L72N_M4ODT_4, H8 IO_L82P_M4A13_4, J1 IO_L63N_M4DQ9_4, J2 IO_L63P_M4DQ8_4, J3 IO_L69N_M4LDM_4, J4 IO_L69P_M4UDM_4, J5 IO_L71N_M4A6_4, J6 VCCO_4, J7 IO_L72P_M4A3_4, J10 IO_L76P_M4A7_4, K1 IO_L62N_M4DQ11_4, K3 IO_L62P_M4DQ10_4, K4 VCCO_4, K5 IO_L71P_M4A5_4, K6 IO_L70N_M4CASN_4, K7 IO_L70P_M4RASN_4, K8 IO_L58P_4, K9 IO_L76N_M4A2_4, K10 IO_L74P_M4A0_4, L1 IO_L61N_M4UDQSN_4, L2 IO_L61P_M4UDQS_4, L8 IO_L58N_VREF_4, L9 IO_L74N_M4A1_4, M1 IO_L60N_M4DQ13_4, M2 VCCO_4, M3 IO_L60P_M4DQ12_4, N1 IO_L59N_M4DQ15_4, N2 IO_L59P_M4DQ14_4
part F pins: A23 IO_L1N_A24_VREF_5, A25 IO_L10N_M5A1_5, B23 IO_L1P_A25_5, B24 IO_L10P_M5A0_5, B25 IO_L12P_M5A3_5, B26 IO_L12N_M5ODT_5, C24 IO_L3N_M5A11_5, C25 IO_L11P_M5CLK_5, C26 IO_L11N_M5CLKN_5, D22 IO_L4N_M5A12_5, D23 IO_L3P_M5RESET_5, D24 IO_L17P_M5DQ6_5, D25 VCCO_5, D26 IO_L17N_M5DQ7_5, E23 IO_L7P_M5WE_5, E24 IO_L7N_M5BA2_5, E25 IO_L16P_M5DQ4_5, E26 IO_L16N_M5DQ5_5, F22 IO_L4P_M5CKE_5, F23 VCCO_5, F24 IO_L18P_M5LDQS_5, F26 IO_L18N_M5LDQSN_5, G19 IO_L9N_M5BA1_5, G20 IO_L2P_M5A13_5, G21 IO_L2N_M5A14_5, G22 IO_L6N_M5A4_5, G23 IO_L8P_M5A7_5, G24 IO_L8N_M5A2_5, G25 IO_L20P_M5DQ0_5, G26 IO_L20N_M5DQ1_5, H18 IO_L9P_M5BA0_5, H19 IO_L27P_5, H20 IO_L5P_M5A8_5, H21 IO_L5N_M5A9_5, H22 IO_L6P_M5A10_5, H24 IO_L19P_M5DQ2_5, H25 VCCO_5, H26 IO_L19N_M5DQ3_5, J20 IO_L27N_5, J21 VCCO_5, J22 IO_L14N_M5CASN_5, J23 IO_L15P_M5UDM_5, J24 IO_L15N_M5LDM_5, J25 IO_L22P_M5DQ10_5, J26 IO_L22N_M5DQ11_5, K20 IO_L13P_M5A5_5, K21 IO_L13N_M5A6_5, K22 IO_L14P_M5RASN_5, K23 VCCO_5, K24 IO_L21P_M5DQ8_5, K26 IO_L21N_M5DQ9_5, L20 IO_L26P_5, L21 IO_L26N_VREF_5, L25 IO_L24P_M5DQ12_5, L26 IO_L24N_M5DQ13_5, M24 IO_L23P_M5UDQS_5, M25 VCCO_5, M26 IO_L23N_M5UDQSN_5, N25 IO_L25P_M5DQ14_5, N26 IO_L25N_M5DQ15_5
part G pins: A24 TDO, AA20 RFUSE, AB19 VFS, AD23 SUSPEND, C23 TMS, E21 TCK, F20 TDI, W21 VBATT
part H pins: A1 GND, A26 GND, AB2 GND, AB12 GND, AB16 GND, AB20 GND, AB25 GND, AC8 GND, AE6 GND, AE10 GND, AE14 GND, AE18 GND, AE22 GND, AF1 GND, AF26 GND, B5 GND, B9 GND, B13 GND, B17 GND, B21 GND, D4 GND, E7 GND, E11 GND, E15 GND, E22 GND, F2 GND, F19 GND, F25 GND, H4 GND, H11 GND, H23 GND, J8 GND, J19 GND, K2 GND, K16 GND, K25 GND, L11 GND, L13 GND, L15 GND, M5 GND, M12 GND, M14 GND, M16 GND, M22 GND, N11 GND, N13 GND, N15 GND, P2 GND, P12 GND, P14 GND, P16 GND, P19 GND, P25 GND, R8 GND, R11 GND, R13 GND, R15 GND, T5 GND, T12 GND, T14 GND, T16 GND, T21 GND, U11 GND, V2 GND, V25 GND, W15 GND, W20 GND, Y4 GND, Y7 GND, Y11 GND, Y23 GND
part I pins: AA6 VCCAUX, AA10 VCCAUX, AA16 VCCAUX, AA21 VCCAUX, F6 VCCAUX, F21 VCCAUX, G12 VCCAUX, G15 VCCAUX, J9 VCCAUX, J18 VCCAUX, K11 VCCINT, K13 VCCAUX, K17 VCCINT, L5 VCCAUX, L10 VCCINT, L12 VCCINT, L14 VCCINT, L16 VCCINT, L22 VCCAUX, M11 VCCINT, M13 VCCINT, M15 VCCINT, M17 VCCAUX, N10 VCCAUX, N12 VCCINT, N14 VCCINT, N16 VCCINT, P11 VCCINT, P13 VCCINT, P15 VCCINT, R12 VCCINT, R14 VCCINT, R16 VCCINT, T11 VCCINT, T13 VCCINT, T15 VCCINT, T17 VCCINT, U6 VCCAUX, U10 VCCINT, U14 VCCAUX, U16 VCCINT, V9 VCCAUX, Y19 VCCAUX
part J pins: E12 NC, F8 NC, F12 NC, F14 NC, G9 NC, G11 NC, G13 NC, H9 NC, H10 NC, H12 NC, H13 NC, J11 NC, J12 NC, J13 NC, J16 NC, K12 NC, K14 NC, K15 NC
part A text: BANK 0
part B text: BANK 1
part C text: BANK 2
part D text: BANK 3
part E text: BANK 4
part F text: BANK 5

## FUS_0154.250DR
designator F??, comment 0154.250DR  Voltage Rating: 125V  Current Rating: 250mA
FUS - 250mA 125 VAC/VDC - 2-SMD; Manufacturer #1: Littelfuse Inc.; Part Number #1: 0154002.DR; Value: 250MA 125VAC/VDC FAST; GRAMS Lib Spec: 2.8; Magnetic Material: UNKNOWN; Polarized: NO; Tolerance: *; Power Max: *; HelpURL: http://www.littelfuse.com/~/media/electronics/datasheets/fuses/littelfuse_fuse_154_154t_154l_154tl_datasheet.pdf.pdf; CreatedBy/Date: L-P Gauthier / 2018-06-05; VerifiedBy: Caroline Paulin - 28 sept 2018; Temperature: -55°C ~ 125°C; Package: 2-SMD; Manufacturer #2: *; Assembly Type: SMD; Part Number #2: *; Supplier 1: Digi-Key; Supplier Part Number 1: F1219CT-ND; Cryo: UNKNOWN
footprint FUS_0154XXX.DR (FUSE BRD MNT 2SMD)
pins: 1, 2

## FUS_0154.500DR
designator F??, comment 0154.500DR  Voltage Rating: 125V  Current Rating: 500mA
FUS - 500mA 125 VAC/VDC - 2-SMD; Manufacturer #1: Littelfuse Inc.; Value: 500mA 125VAC/VDC Fast; GRAMS Lib Spec: 2.8; Magnetic Material: UNKNOWN; Polarized: No; Tolerance: *; Power Max: -; HelpURL: http://www.littelfuse.com/~/media/electronics/datasheets/fuses/littelfuse_fuse_154_154t_154l_154tl_datasheet.pdf.pdf; CreatedBy/Date: Raphael Bouchard / 2019-08-09; VerifiedBy: c.paulin - 14/08/2019; Temperature: -55°C ~ 125°C; Package: 2-SMD; Manufacturer #2: -; Note: -; Assembly Type: SMD; Part Number #2: -; Part Number #1: 0154.500DR; Supplier 1: Digi-Key; Supplier Part Number 1: F1220CT-ND; Cryo: UNKNOWN
footprint FUS_0154XXX.DR (FUSE BRD MNT 2SMD)
pins: 1, 2

## FUS_0154001.DR
designator F??, comment 0154001.DR  Voltage Rating: 125V  Current Rating: 1A
FUS - 1 A 125 VAC/VDC - 2-SMD; Manufacturer #1: Littelfuse Inc.; Value: 1A 125V AC/DC FAST; GRAMS Lib Spec: 2.8; Magnetic Material: UNKNOWN; Polarized: NO; Tolerance: *; Power Max: *; HelpURL: http://www.littelfuse.com/~/media/electronics/datasheets/fuses/littelfuse_fuse_154_154t_154l_154tl_datasheet.pdf.pdf; CreatedBy/Date: Danae D-F 8 aout 2019; VerifiedBy: C.Paulin - 16 août 2019; Temperature: -55°C ~ 125°C; Package: 2-SMD; Manufacturer #2: *; Note: *; Assembly Type: SMD; Part Number #2: *; Part Number #1: 0154001.DR; Supplier 1: Digi-Key; Supplier Part Number 1: F1222CT-ND; Cryo: UNKNOWN
footprint FUS_0154XXX.DR (FUSE BRD MNT 2SMD)
pins: 1, 2

## FUS_0154002.DR
designator F??, comment 0154002.DR  Voltage Rating: 125V  Current Rating: 2A
FUS - 2 A 125 VAC/VDC - 2-SMD; Manufacturer #1: Littelfuse Inc.; Value: 2A 125V AC/DC FAST; GRAMS Lib Spec: 2.8; Magnetic Material: UNKNOWN; Polarized: NO; Tolerance: *; Power Max: *; HelpURL: http://www.littelfuse.com/~/media/electronics/datasheets/fuses/littelfuse_fuse_154_154t_154l_154tl_datasheet.pdf.pdf; CreatedBy/Date: Jonathan Bouchard 2018-07-17; VerifiedBy: Arnaud Samson 23-07-18; Temperature: -55°C ~ 125°C; Package: 2-SMD; Manufacturer #2: *; Note: *; Assembly Type: SMD; Part Number #2: *; Part Number #1: 0154002.DR; Supplier 1: Digi-Key; Supplier Part Number 1: F1224CT-ND; Cryo: UNKNOWN
footprint FUS_0154XXX.DR (FUSE BRD MNT 2SMD)
pins: 1, 2

## FUS_0154003.DR
designator F??, comment 0154003.DR  Voltage Rating: 125V  Current Rating: 3A
FUS - 3 A 125 VAC/VDC - 2-SMD; Manufacturer #1: Littelfuse Inc.; Value: 3A 125V AC/DC FAST; GRAMS Lib Spec: 2.8; Magnetic Material: UNKNOWN; Polarized: NO; Tolerance: *; Power Max: *; HelpURL: http://www.littelfuse.com/~/media/electronics/datasheets/fuses/littelfuse_fuse_154_154t_154l_154tl_datasheet.pdf.pdf; CreatedBy/Date: Joël Lemay 2019-10-24; VerifiedBy: CP - 2019-12-3; Temperature: -55°C ~ 125°C; Package: 2-SMD; Manufacturer #2: *; Note: *; Assembly Type: SMD; Part Number #2: *; Part Number #1: 0154003.DR; Supplier 1: Digi-Key; Supplier Part Number 1: F1226CT-ND; Cryo: UNKNOWN
footprint FUS_0154XXX.DR (FUSE BRD MNT 2SMD)
pins: 1, 2

## FUS_0154004.DR
designator F??, comment 0154004.DR  Voltage Rating: 125V  Current Rating: 4A
FUS - 4A 125 VAC/VDC - 2-SMD; Manufacturer #1: Littelfuse Inc.; Value: 4A 125V AC/DC FAST; GRAMS Lib Spec: 2.8; Magnetic Material: UNKNOWN; Polarized: NO; Tolerance: *; Power Max: *; HelpURL: http://www.littelfuse.com/~/media/electronics/datasheets/fuses/littelfuse_fuse_154_154t_154l_154tl_datasheet.pdf.pdf; CreatedBy/Date: Caroline Paulin - 3/12/2019; VerifiedBy: c.Paulin - 2019-12-03; Temperature: -55°C ~ 125°C; Package: 2-SMD; Manufacturer #2: *; Note: *; Assembly Type: SMD; Part Number #2: *; Part Number #1: 0154004.DR; Supplier 1: Digi-Key; Supplier Part Number 1: F1227CT-ND; Cryo: UNKNOWN
footprint FUS_0154XXX.DR (FUSE BRD MNT 2SMD)
pins: 1, 2

## FUS_0154005.DR
designator F??, comment 0154005.DR  Voltage Rating: 125V  Current Rating: 5A
FUS - 5 A 125 VAC/VDC - 2-SMD; Manufacturer #1: Littelfuse Inc.; Value: 5A 125V AC/DC FAST; GRAMS Lib Spec: 2.8; Magnetic Material: UNKNOWN; Polarized: NO; Tolerance: *; Power Max: *; HelpURL: http://www.littelfuse.com/~/media/electronics/datasheets/fuses/littelfuse_fuse_154_154t_154l_154tl_datasheet.pdf.pdf; CreatedBy/Date: Arnaud Samson - 06/07/18; VerifiedBy: Jonathan Bouchard 2018-07-16; Temperature: -55°C ~ 125°C; Package: 2-SMD; Manufacturer #2: *; Note: *; Assembly Type: SMD; Part Number #2: *; Part Number #1: 0154005.DR; Supplier 1: Digi-Key; Supplier Part Number 1: F1228CT-ND; Cryo: UNKNOWN
footprint FUS_0154XXX.DR (FUSE BRD MNT 2SMD)
pins: 1, 2

## IND_PLT10HH101150PNL
designator L??, comment value 100R @ 10MHz  (hidden comment: PLT10HH101150PNL)
IND - 2 Line Common Mode Choke Surface Mount 100 Ohms @ 10MHz 15A DCR 2.3 mOhm - SMD (12.9mm L x 6.6mm W x 9.4mm H); Manufacturer #1: Murata Electronics North America; Voltage Rating: 300VDC; GRAMS Lib Spec: 2.8; Magnetic Material: Yes; Polarized: No; Cryo: UNKNOWN; Tolerance: *; Current Rating: 15A; Power Max: *; HelpURL: https://www.murata.com/en-eu/products/productdata/8796754935838/QFLB9101.pdf; CreatedBy/Date: Tommy Rossginol - 2019/04/09; VerifiedBy: Caroline Paulin - 10-04-2019; Temperature: -55°C ~ 125°C; Package: SMD (12.9mm L x 6.6mm W x 9.4mm H); Manufacturer #2: *; Assembly Type: SMD; Part Number #2: *; Part Number #1: PLT10HH101150PNL; Supplier 1: Digi-Key; Supplier Part Number 1: 490-12821-1-ND
footprint IND_PLT10HH101150PNL
pins: 1, 2, 3, 4

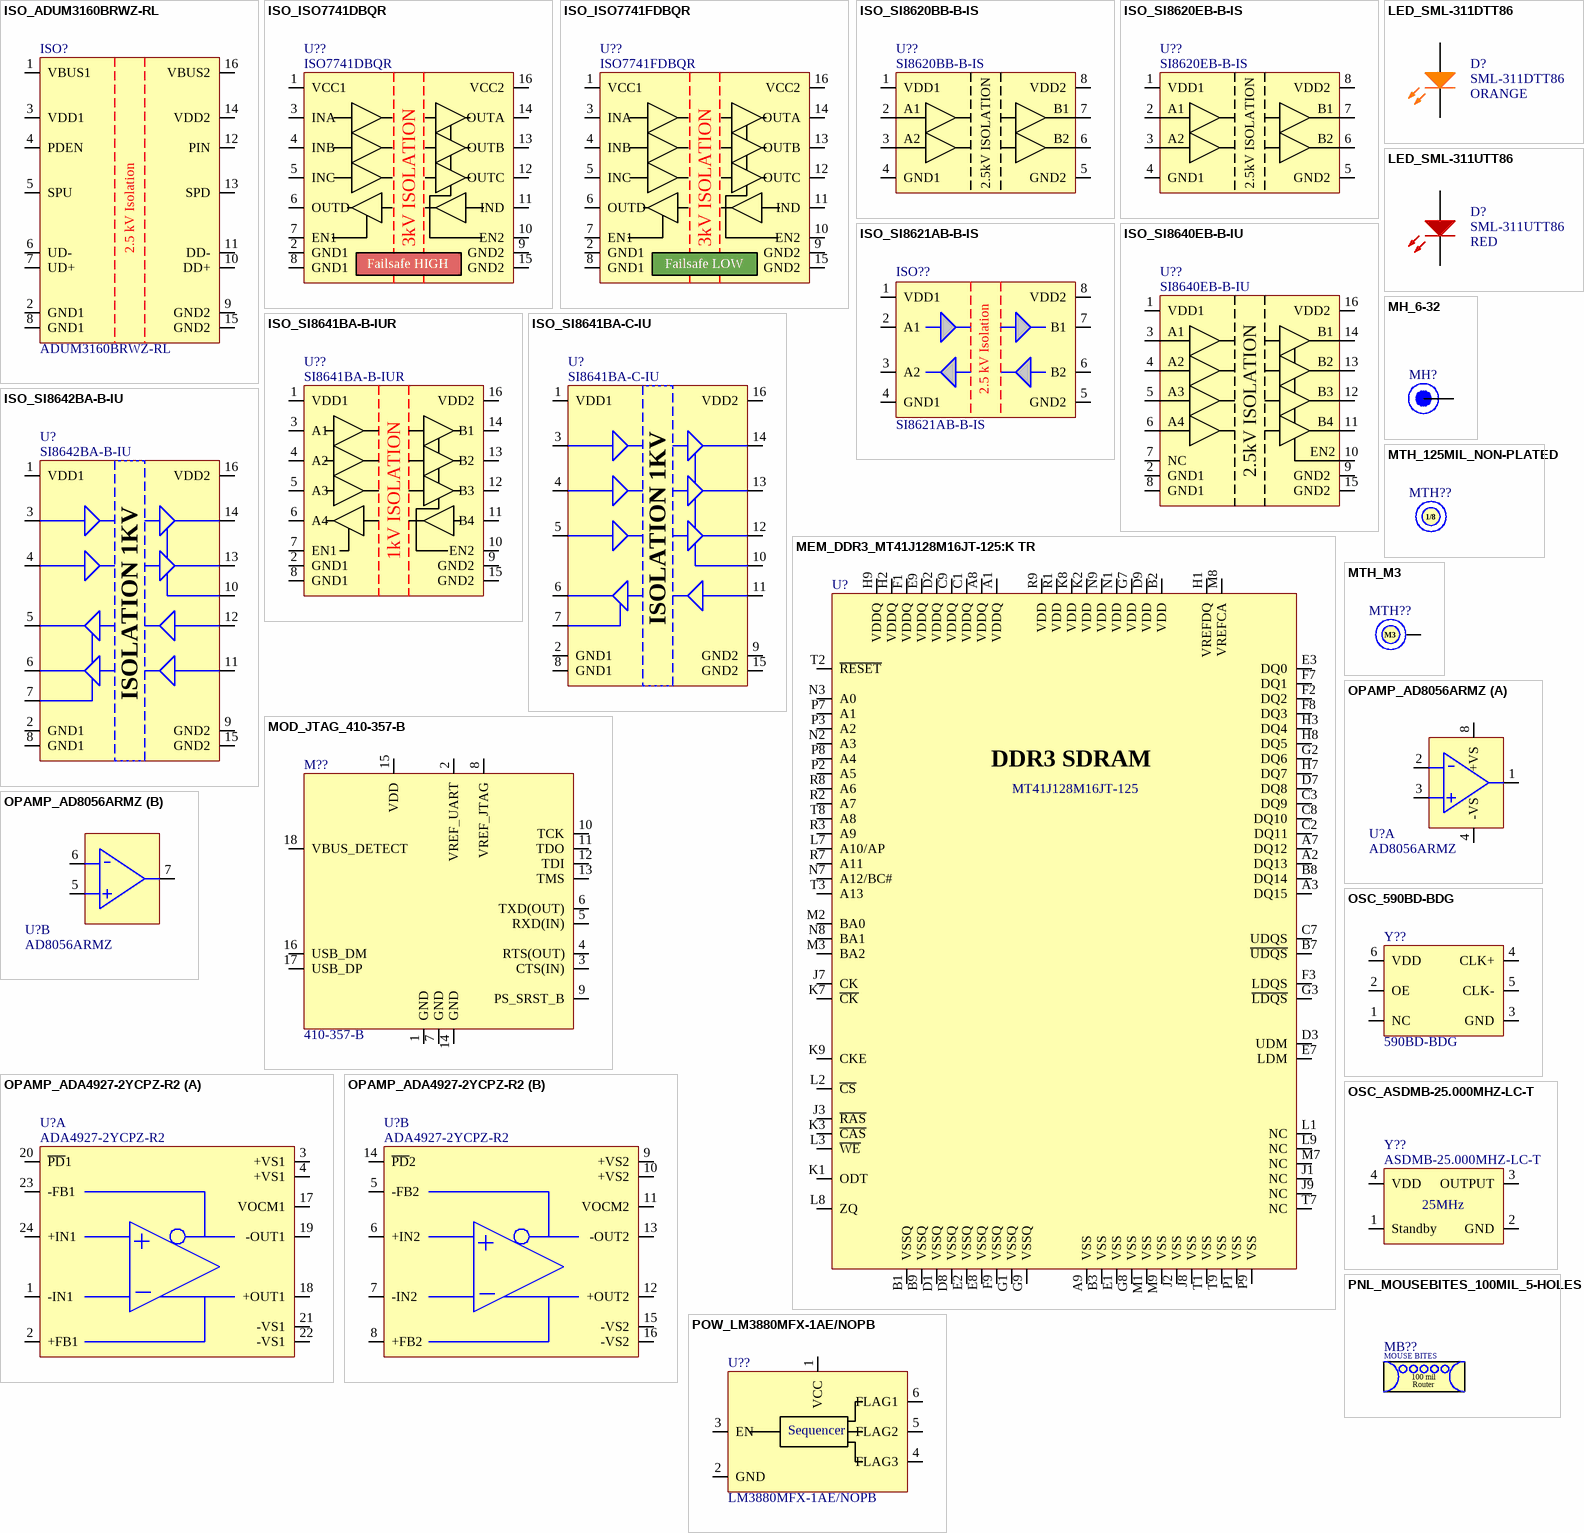
[diagram p3: symbols ISO_ADUM3160BRWZ-RL to POW_LM3880MFX-1AE/NOPB]

## ISO_ADUM3160BRWZ-RL
designator ISO?, comment ADUM3160BRWZ-RL
ISO - DGTL ISO 2.5KV 2CH USB - 16SOIC; Manufacturer #1: Analog Devices; Value: 2500Vrms voltage isolation; Voltage Rating: 3~5.5V; GRAMS Lib Spec: 2.8; Magnetic Material: UNKNOWN; Polarized: Yes; Tolerance: *; Current Rating: *; Power Max: *; HelpURL: https://www.analog.com/media/en/technical-documentation/data-sheets/ADuM3160.pdf; CreatedBy/Date: Tommy Rossignol 2018-11-16; VerifiedBy: Caroline Paulin - 13 février 2019; Temperature: -40°C ~ 105°C; Package: 16-SOIC; Manufacturer #2: *; Assembly Type: SMD; Part Number #2: *; Part Number #1: ADUM3160BRWZ-RL; Supplier 1: Digi-Key; Supplier Part Number 1: ADUM3160BRWZ-RLCT-ND; Cryo: UNKNOWN
footprint ISO_ADUM3160BRWZ-RL
pins: 1 VBUS1, 2 GND1, 3 VDD1, 4 PDEN, 5 SPU, 6 UD-, 7 UD+, 8 GND1, 9 GND2, 10 DD+, 11 DD-, 12 PIN, 13 SPD, 14 VDD2, 15 GND2, 16 VBUS2
text: 2.5 kV Isolation

## ISO_ISO7741DBQR
designator U??, comment ISO7741DBQR
ISO - Quad-Channel Digital Isolator 3/1 (Default High)- 16-SSOP; Manufacturer #1: Texas Instruments; Voltage Rating: 2.25-5.5V; GRAMS Lib Spec: 2.8c; Magnetic Material: Unknown; Polarized: Yes; Value: *; Tolerance: *; Current Rating: *; Power Max: *; HelpURL: http://www.ti.com/lit/ds/symlink/iso7741.pdf; CreatedBy/Date: Louis-Daniel Gaulin / 11-03-2020; VerifiedBy: C.Paulin - 20/04/2020; Temperature: -55°C ~ 125°C; Package: 16-SSOP; Manufacturer #2: *; Assembly Type: SMD; Part Number #2: *; Part Number #1: ISO7741DBQR; Supplier 1: Digi-Key; Supplier Part Number 1: 296-47660-1-ND; Cryo: UNKNOWN
footprint ISO_ISO7741DBQR (SOP, 16-Leads, Body 4,91x3,90mm, Pitch 0,64mm, IPC Medium Density)
pins: 1 VCC1, 2 GND1, 3 INA, 4 INB, 5 INC, 6 OUTD, 7 EN1, 8 GND1, 9 GND2, 10 EN2, 11 IND, 12 OUTC, 13 OUTB, 14 OUTA, 15 GND2, 16 VCC2
text: 3kV ISOLATION; Failsafe HIGH

## ISO_ISO7741FDBQR
designator U??, comment ISO7741FDBQR
ISO - Quad-Channel Digital Isolator 3/1 (Default Low)- 16-SSOP; Manufacturer #1: Texas Instruments; Voltage Rating: 2.25-5.5V; GRAMS Lib Spec: 2.8c; Magnetic Material: Unknown; Polarized: Yes; Value: 3/1; Tolerance: *; Current Rating: *; Power Max: *; HelpURL: http://www.ti.com/lit/ds/symlink/iso7741.pdf; CreatedBy/Date: Louis-Daniel Gaulin / 11-03-2020; VerifiedBy: c.Paulin - 20/04/2020; Temperature: -55°C ~ 125°C; Package: 16-SSOP; Manufacturer #2: *; Assembly Type: SMD; Part Number #2: *; Part Number #1: ISO7741FDBQR; Supplier 1: Digi-Key; Supplier Part Number 1: 296-48140-1-ND; Cryo: UNKNOWN
footprint ISO_ISO7741FDBQR (SOP, 16-Leads, Body 4,91x3,90mm, Pitch 0,64mm, IPC Medium Density)
pins: 1 VCC1, 2 GND1, 3 INA, 4 INB, 5 INC, 6 OUTD, 7 EN1, 8 GND1, 9 GND2, 10 EN2, 11 IND, 12 OUTC, 13 OUTB, 14 OUTA, 15 GND2, 16 VCC2
text: 3kV ISOLATION; Failsafe LOW

## ISO_SI8620BB-B-IS
designator U??, comment SI8620BB-B-IS
ISO - Dual-Channel Digital Isolator (default Low) - 8-SOIC; Manufacturer #1: Silicon Labs; Voltage Rating: 2.5-5.5V; GRAMS Lib Spec: 2.8; Magnetic Material: Unknown; Polarized: Yes; Value: *; Tolerance: *; Current Rating: *; Power Max: *; HelpURL: https://www.silabs.com/documents/public/data-sheets/si861x-2x-datasheet.pdf; CreatedBy/Date: Joel Lemay 2018-06-05; VerifiedBy: Caroline Paulin - 12 sept 2018; Temperature: -40°C ~ 125°C; Package: 8-SOIC; Manufacturer #2: *; Assembly Type: SMD; Part Number #2: *; Part Number #1: SI8620BB-B-IS; Supplier 1: Digi-Key; Supplier Part Number 1: 336-2567-ND; Cryo: UNKNOWN
footprint ISO_SI8620BB-B-IS
pins: 1 VDD1, 2 A1, 3 A2, 4 GND1, 5 GND2, 6 B2, 7 B1, 8 VDD2
text: 2.5kV ISOLATION

## ISO_SI8620EB-B-IS
designator U??, comment SI8620EB-B-IS
ISO - Dual-Channel Digital Isolator (default HI) - 8-SOIC; Manufacturer #1: Silicon Labs; Voltage Rating: 2.5-5.5V; GRAMS Lib Spec: 2.8; Magnetic Material: Unknown; Polarized: Yes; Value: *; Tolerance: *; Current Rating: *; Power Max: *; HelpURL: https://www.silabs.com/documents/public/data-sheets/si861x-2x-datasheet.pdf; CreatedBy/Date: Joel Lemay 2018-06-05; VerifiedBy: Caroline Paulin - 12 sept 2018; Temperature: -40°C ~ 125°C; Package: 8-SOIC; Manufacturer #2: *; Assembly Type: SMD; Part Number #2: *; Part Number #1: SI8620EB-B-IS; Supplier 1: Digi-Key; Supplier Part Number 1: SI8620EB-B-IS-ND; Cryo: UNKNOWN
footprint ISO_SI8620EB-B-IS
pins: 1 VDD1, 2 A1, 3 A2, 4 GND1, 5 GND2, 6 B2, 7 B1, 8 VDD2
text: 2.5kV ISOLATION

## ISO_SI8621AB-B-IS
designator ISO??, comment SI8621AB-B-IS
ISO - DGTL ISO 2.5KV 2CH GEN PURP  - 8SOIC; Manufacturer #1: Silicon Labs; Polarized: YES; Magnetic Material: UNKNOWN; Value: 2.5kV Isolation; GRAMS Lib Spec: 2.8; Voltage Rating: 2.5 V ~ 5.5 V; Current Rating: *; Manufacturer #2: *; Power Max: *; Part Number #1: SI8621AB-B-IS; Part Number #2: *; HelpURL: https://www.silabs.com/documents/public/data-sheets/Si86xx.pdf; Note: *; Supplier 1: Digi-Key; Supplier Part Number 1: SI8621AB-B-IS-ND; Assembly Type: SMD; Package: 8-SOIC; Temperature: -40°C ~ 125°C; CreatedBy/Date: Jonathan Bouchard 2018-07-16; Tolerance: *; VerifiedBy: Arnaud Samson 17-07-18; Cryo: UNKNOWN
footprint ISO_SI8621AB-B-IS (SOIC, 8-Leads, Body 4,90x3,90mm, Pitch 1,27mm, IPC Medium Density)
pins: 1 VDD1, 2 A1, 3 A2, 4 GND1, 5 GND2, 6 B2, 7 B1, 8 VDD2
text: 2.5 kV Isolation

## ISO_SI8640EB-B-IU
designator U??, comment SI8640EB-B-IU
ISO - Quad-Channel Digital Isolator (default HI) - 16-SSOP; Manufacturer #1: Silicon Labs; Voltage Rating: 2.5-5.5V; GRAMS Lib Spec: 2.8; Magnetic Material: Unknown; Polarized: Yes; Value: *; Tolerance: *; Current Rating: *; Power Max: *; HelpURL: https://www.silabs.com/documents/public/data-sheets/si864x-datasheet.pdf; CreatedBy/Date: Joel Lemay 2018-06-05; VerifiedBy: Caroline Paulin - 12 sept 2018; Temperature: -40°C ~ 125°C; Package: 16-SSOP; Manufacturer #2: *; Assembly Type: SMD; Part Number #2: *; Part Number #1: SI8640EB-B-IU; Supplier 1: Digi-Key; Supplier Part Number 1: 336-4288-ND; Cryo: UNKNOWN
footprint ISO_SI8640EB-B-IU
pins: 1 VDD1, 2 GND1, 3 A1, 4 A2, 5 A3, 6 A4, 7 NC, 8 GND1, 9 GND2, 10 EN2, 11 B4, 12 B3, 13 B2, 14 B1, 15 GND2, 16 VDD2
text: 2.5kV ISOLATION

## ISO_SI8641BA-B-IUR
designator U??, comment SI8641BA-B-IUR
ISO - Quad-Channel Digital Isolator - 16-SSOP; Manufacturer #1: Silicon Labs; Voltage Rating: 2.375-5.5V; GRAMS Lib Spec: 2.8c; Magnetic Material: Unknown; Polarized: Yes; Value: *; Tolerance: *; Current Rating: *; Power Max: *; HelpURL: https://www.silabs.com/documents/public/data-sheets/si864x-datasheet.pdf; CreatedBy/Date: Louis-Daniel Gaulin / 25-02-2020; VerifiedBy: C.Paulin - 9/03/2020; Temperature: -40°C ~ 125°C; Package: 16-SSOP; Manufacturer #2: *; Assembly Type: SMD; Part Number #2: *; Part Number #1: SI8641BA-B-IUR; Supplier 1: Digi-Key; Supplier Part Number 1: 336-4333-1-ND; Cryo: UNKNOWN
footprint ISO_SI8641BA-B-IUR (SOP, 16-Leads, Body 4,89x3,90mm, Pitch 0,64mm, IPC Medium Density)
pins: 1 VDD1, 2 GND1, 3 A1, 4 A2, 5 A3, 6 A4, 7 EN1, 8 GND1, 9 GND2, 10 EN2, 11 B4, 12 B3, 13 B2, 14 B1, 15 GND2, 16 VDD2
text: 1kV ISOLATION

## ISO_SI8641BA-C-IU
designator U?, comment SI8641BA-C-IU
ISO - DIGITAL ISOLATOR 1KV 4CH 3:1 GEN PURP -  SOP-16; Voltage: 2.5 V ~ 5.5 V; Mfg: Silicon Labs; Current: *; Power: *; Mfg Part Number: SI8641BA-C-IU; HelpURL: http://www.silabs.com/Support%20Documents/TechnicalDocs/si864x-datasheet.pdf; CreatedBy: Jonathan Bouchard; Temperature: -40°C ~ 125°C; Value: *; Precision: *; Package: SOP-16; Supplier 1: Digikey; Supplier Part Number 1: SI8641BA-C-IU-ND
footprint ISO_SI8642BA-B-IU
pins: 1 VDD1 (power), 2 GND1, 3 A1, 4 A2, 5 A3, 6 A4, 7 EN1, 8 GND1, 9 GND2, 10 EN2, 11 B4, 12 B3, 13 B2, 14 B1, 15 GND2, 16 VDD2 (power)
text: ISOLATION 1KV

## ISO_SI8642BA-B-IU
designator U?, comment SI8642BA-B-IU
ISO - DIGITAL ISOLATOR 1KV 4CH 2:2 GEN PURP -  SOP-16; Voltage: 2.5 V ~ 5.5 V; Mfg: Silicon Labs; Current: *; Power: *; Mfg Part Number: SI8642BA-B-IU; HelpURL: http://www.silabs.com/Support%20Documents/TechnicalDocs/si864x-datasheet.pdf; CreatedBy: Jonathan Bouchard; Temperature: -40°C ~ 125°C; Value: *; Precision: *; Package: SOP-16; Supplier 1: Digikey; Supplier Part Number 1: 336-2091-5-ND
footprint ISO_SI8642BA-B-IU
pins: 1 VDD1 (power), 2 GND1, 3 A1, 4 A2, 5 A3, 6 A4, 7 EN1, 8 GND1, 9 GND2, 10 EN2, 11 B4, 12 B3, 13 B2, 14 B1, 15 GND2, 16 VDD2 (power)
text: ISOLATION 1KV

## LED_SML-311DTT86
designator D?, comment SML-311DTT86  value ORANGE
LED - 611nM ORANGE 2mA - 0603; Voltage: 1.8V; Mfg: ROHM Semiconductor; Power: 44mW; Current: 2mA; HelpURL: http://media.digikey.com/pdf/Data%20Sheets/Rohm%20PDFs/SML-311%20Series.pdf; CreatedBy: Jonathan Bouchard; Temperature: -40°C to 85°C; Package: 0603; Precision: *; Mfg Part Number: SML-311DTT86; Supplier 1: Digikey; Supplier Part Number 1: 511-1303-1-ND
footprint LED_0603 (Light Emitting Diode - Package 1608)
pins: A, K

## LED_SML-311UTT86
designator D?, comment SML-311UTT86  value RED
LED - 620nM RED 2mA - 0603; Voltage: 1.8V; Mfg: ROHM Semiconductor; Power: 44mW; Current: 2mA; HelpURL: http://media.digikey.com/pdf/Data%20Sheets/Rohm%20PDFs/SML-311%20Series.pdf; CreatedBy: Jonathan Bouchard; Temperature: -30°C to 85°C; Package: 0603; Precision: *; Mfg Part Number: SML-311UTT86; Supplier 1: Digikey; Supplier Part Number 1: 511-1304-1-ND
footprint LED_0603 (Light Emitting Diode - Package 1608)
pins: A, K

## MEM_DDR3_MT41J128M16JT-125:K TR
designator U?, comment MT41J128M16JT-125
MEM - DDR3 SDRAM 2GBIT 800MHZ - TFBGA-96; Voltage: 1.425 V ~ 1.575 V; Mfg: Micrel; Current: *; Power: *; Mfg Part Number: MT41J128M16JT-125; HelpURL: http://www.micron.com/~/media/Documents/Products/Data%20Sheet/DRAM/DDR3/2Gb_DDR3_SDRAM.pdf; CreatedBy: Jonathan Bouchard; Temperature: 0°C ~ 95°C (TC); Value: *; Precision: *; Package: TFBGA-96; Supplier 1: Digikey; Supplier Part Number 1: 557-1611-1-ND
footprint MEM_DDR3_MT41J128M16JT-125
pins: A1 VDDQ, A2 DQ13, A3 DQ15, A7 DQ12, A8 VDDQ, A9 VSS, B1 VSSQ, B2 VDD, B3 VSS, B7 ~{UDQS}, B8 DQ14, B9 VSSQ, C1 VDDQ, C2 DQ11, C3 DQ9, C7 UDQS, C8 DQ10, C9 VDDQ, D1 VSSQ, D2 VDDQ, D3 UDM, D7 DQ8, D8 VSSQ, D9 VDD, E1 VSS, E2 VSSQ, E3 DQ0, E7 LDM, E8 VSSQ, E9 VDDQ, F1 VDDQ, F2 DQ2, F3 LDQS, F7 DQ1, F8 DQ3, F9 VSSQ, G1 VSSQ, G2 DQ6, G3 ~{LDQS}, G7 VDD, G8 VSS, G9 VSSQ, H1 VREFDQ, H2 VDDQ, H3 DQ4, H7 DQ7, H8 DQ5, H9 VDDQ, J1 NC, J2 VSS, J3 ~{RAS}, J7 CK, J8 VSS, J9 NC, K1 ODT, K2 VDD, K3 ~{CAS}, K7 ~{CK}, K8 VDD, K9 CKE, L1 NC, L2 ~{CS}, L3 ~{WE}, L7 A10/AP, L8 ZQ, L9 NC, M1 VSS, M2 BA0, M3 BA2, M7 NC, M8 VREFCA, M9 VSS, N1 VDD, N2 A3, N3 A0, N7 A12/BC#, N8 BA1, N9 VDD, P1 VSS, P2 A5, P3 A2, P7 A1, P8 A4, P9 VSS, R1 VDD, R2 A7, R3 A9, R7 A11, R8 A6, R9 VDD, T1 VSS, T2 ~{RESET}, T3 A13, T7 NC, T8 A8, T9 VSS
text: DDR3 SDRAM

## MH_6-32
designator MH?, comment Mounting Hole 6-32  (value not drawn)  (no BOM)
MH - Mounting Hole 6-32; Current: *; Mfg Part Number: *; HelpURL: *; CreatedBy: Jonathan Bouchard; VerifiedBy: Alexandre Imbeault; FootprintNameOK: Jonathan Bouchard; Temperature: *; Power: *; Precision: *; Value: *; Mfg: *; Package: *; Voltage: *
footprint MH_ENG_6-32 (Mounting hole - Imperial 6-32)
pins: 1

## MOD_JTAG_410-357-B
designator M??, comment 410-357-B
MOD - JTAG-SMT3-NC Programming Module For Xilinx FPGA - 18-SMT; Manufacturer #1: Digilent; Voltage Rating: VDD: 2.97V~3.63V, VJTAG/VUART: 1.65V~5.5V; GRAMS Lib Spec: 2.8; Note: Prior to reflow, the JTAG-SMT3-NC module must be dried at 125°C for 17 hours; Magnetic Material: Unknown; Polarized: Yes; Value: *; Tolerance: *; Current Rating: *; Power Max: *; HelpURL: https://reference.digilentinc.com/_media/reference/programmers/jtag-smt3/jtag-smt3-nc_rm.pdf; CreatedBy/Date: Tommy Rossignol 2018-11-23; VerifiedBy: Nicolas V. (2019-01-28); Temperature: -40°C ~ 85°C; Package: 18-pad SMT; Manufacturer #2: *; Assembly Type: SMD; Part Number #2: *; Part Number #1: 410-357-B; Supplier 1: Digi-Key; Supplier Part Number 1: 1286-1196-ND; Cryo: UNKNOWN
footprint MOD_JTAG_410-357-B
pins: 1 GND, 2 VREF_UART, 3 CTS(IN), 4 RTS(OUT), 5 RXD(IN), 6 TXD(OUT), 7 GND, 8 VREF_JTAG, 9 PS_SRST_B, 10 TCK, 11 TDO, 12 TDI, 13 TMS, 14 GND, 15 VDD, 16 USB_DM, 17 USB_DP, 18 VBUS_DETECT

## MTH_125MIL_NON-PLATED
designator MTH??, comment 1/8  (no BOM)
MTH - MOUNTING HOLE 125 MILS NON-PLATED - 1/8''; GRAMS Lib Spec: 2.8; Magnetic Material: NO; Cryo: UNKNOWN; Value: *; Tolerance: *; Voltage Rating: *; Current Rating: *; Power Max: *; HelpURL: *; CreatedBy/Date: Jonathan Bouchard 2018-07-23; VerifiedBy: Arnaud Samson 2018-09-24; Temperature: *; Package: 1/8; Manufacturer #1: *; Manufacturer #2: *; Note: *; Assembly Type: NONE; Part Number #2: *; Part Number #1: *; Polarized: *; Supplier 1: *; Supplier Part Number 1: *
footprint MTH_125MIL_NON-PLATED (Mounting Hole 125MIL Non-Plated)